# Altium schematic symbol library etherceptor.SchLib: 86 symbols (part 1 of 2)
Pins are listed as number, name and electrical type; pins without a type are passive.

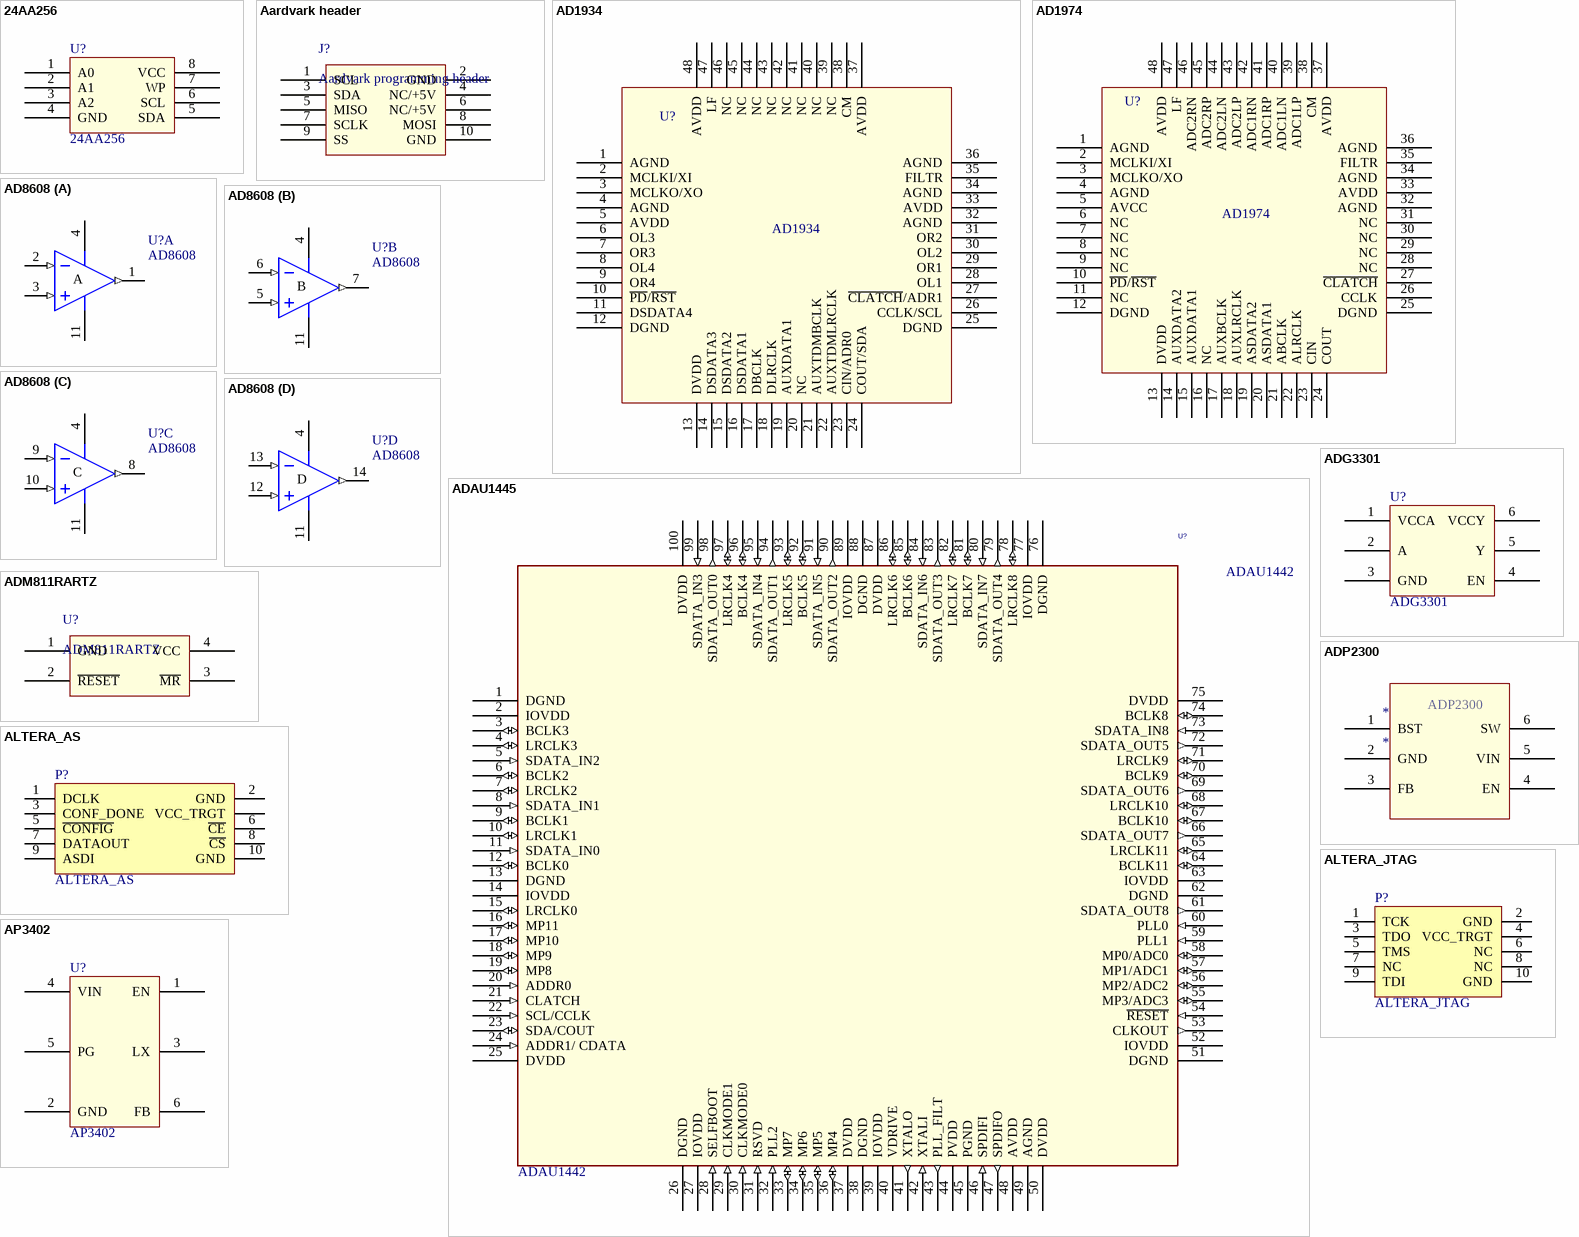
[diagram p0: symbols 24AA256 to AP3402]

## 24AA256
designator U?
Serial EEPROM
footprint SOIC150-8_M (8-Pin Plastic Narrow Body Small Outline Integrated Circuit 1.27 mm Pitch, IPC Low Density)
pins: 1 A0, 2 A1, 3 A2, 4 GND, 5 SDA, 6 SCL, 7 WP, 8 VCC

## Aardvark header
designator J?, comment Aardvark programming header
footprint IDC2.54-V10D (Connector; IDC, Low Profile Male Header, Thru-Hole; 10 Position; Vertical; Pitch 2.54 mm; Body 20.32 x 9.2 x 9.45 mm (LxWxH))
pins: 1 SCL, 2 GND, 3 SDA, 4 NC/+5V, 5 MISO, 6 NC/+5V, 7 SCLK, 8 MOSI, 9 SS, 10 GND

## AD1934
designator U?
8xDAC
footprint ADI_LQFP48
footprint TSQFP50P900X900-48M (Thin QFP, 48-Leads, Body 7x7mm, Pitch 0.5mm, IPC Low Density)
pins: 1 AGND, 2 MCLKI/XI, 3 MCLKO/XO, 4 AGND, 5 AVDD, 6 OL3, 7 OR3, 8 OL4, 9 OR4, 10 ~{PD}/~{RST}, 11 DSDATA4, 12 DGND, 13 DVDD, 14 DSDATA3, 15 DSDATA2, 16 DSDATA1, 17 DBCLK, 18 DLRCLK, 19 AUXDATA1, 20 NC, 21 AUXTDMBCLK, 22 AUXTDMLRCLK, 23 CIN/ADR0, 24 COUT/SDA, 25 DGND, 26 CCLK/SCL, 27 ~{CLATCH}/ADR1, 28 OL1, 29 OR1, 30 OL2, 31 OR2, 32 AGND, 33 AVDD, 34 AGND, 35 FILTR, 36 AGND, 37 AVDD, 38 CM, 39 NC, 40 NC, 41 NC, 42 NC, 43 NC, 44 NC, 45 NC, 46 NC, 47 LF, 48 AVDD

## AD1974
designator U?
4xADC
footprint ADI_LQFP48
footprint TSQFP50P900X900-48M (Thin QFP, 48-Leads, Body 7x7mm, Pitch 0.5mm, IPC Low Density)
pins: 1 AGND, 2 MCLKI/XI, 3 MCLKO/XO, 4 AGND, 5 AVCC, 6 NC, 7 NC, 8 NC, 9 NC, 10 ~{PD}/~{RST}, 11 NC, 12 DGND, 13 DVDD, 14 AUXDATA2, 15 AUXDATA1, 16 NC, 17 AUXBCLK, 18 AUXLRCLK, 19 ASDATA2, 20 ASDATA1, 21 ABCLK, 22 ALRCLK, 23 CIN, 24 COUT, 25 DGND, 26 CCLK, 27 ~{CLATCH}, 28 NC, 29 NC, 30 NC, 31 NC, 32 AGND, 33 AVDD, 34 AGND, 35 FILTR, 36 AGND, 37 AVDD, 38 CM, 39 ADC1LP, 40 ADC1LN, 41 ADC1RP, 42 ADC1RN, 43 ADC2LP, 44 ADC2LN, 45 ADC2RP, 46 ADC2RN, 47 LF, 48 AVDD

## AD8608
designator U?
Precision, Low Noise, CMOS, Rail-to-Rail,  Input/Output Operational Amplifiers; Manufacturer: Analog Devices; ProductCode: AD8608ARUZ; Vendor: Farnell; VendorCode: 1660999
footprint TSSOP-14
pins on every part: 4 V+ (power), 11 V- (power)
part A pins: 1 OUT (out), 2 IN- (in), 3 IN+ (in)
part B pins: 5 IN+ (in), 6 IN- (in), 7 OUT (out)
part C pins: 8 OUT (out), 9 IN- (in), 10 IN+ (in)
part D pins: 12 IN+ (in), 13 IN- (in), 14 OUT (out)
part A text: A
part B text: B
part C text: C
part D text: D

## ADAU1445
designator U?, comment ADAU1442
DSP; SlotXofY: SYM 1 OF 1; SymName: ADAU1442
footprint SV-100_ADI_TQFP_100
footprint TQFP_100_ADI_SV-100-8 (Thin QFP, 100-Leads, Body 14x14mm, Pitch 0.5mm, IPC Low Density)
pins: 1 DGND (power), 2 IOVDD (power), 3 BCLK3 (io), 4 LRCLK3 (io), 5 SDATA_IN2 (in), 6 BCLK2 (io), 7 LRCLK2 (io), 8 SDATA_IN1 (in), 9 BCLK1 (io), 10 LRCLK1 (io), 11 SDATA_IN0 (in), 12 BCLK0 (io), 13 DGND (power), 14 IOVDD (power), 15 LRCLK0 (io), 16 MP11 (io), 17 MP10 (io), 18 MP9 (io), 19 MP8 (io), 20 ADDR0 (in), 21 CLATCH (in), 22 SCL/CCLK (in), 23 SDA/COUT (io), 24 ADDR1/ CDATA (in), 25 DVDD (power), 26 DGND (power), 27 IOVDD (power), 28 SELFBOOT (in), 29 CLKMODE1 (in), 30 CLKMODE0 (in), 31 RSVD (in), 32 PLL2 (in), 33 MP7 (io), 34 MP6 (io), 35 MP5 (io), 36 MP4 (io), 37 DVDD (power), 38 DGND (power), 39 IOVDD (power), 40 VDRIVE (power), 41 XTALO (out), 42 XTALI (in), 43 PLL_FILT (out), 44 PVDD (power), 45 PGND (power), 46 SPDIFI (in), 47 SPDIFO (out), 48 AVDD (power), 49 AGND (power), 50 DVDD (power), 51 DGND (power), 52 IOVDD (power), 53 CLKOUT (out), 54 ~{RESET} (in), 55 MP3/ADC3 (io), 56 MP2/ADC2 (io), 57 MP1/ADC1 (io), 58 MP0/ADC0 (io), 59 PLL1 (in), 60 PLL0 (in), 61 SDATA_OUT8 (out), 62 DGND (power), 63 IOVDD (power), 64 BCLK11 (io), 65 LRCLK11 (io), 66 SDATA_OUT7 (out), 67 BCLK10 (io), 68 LRCLK10 (io), 69 SDATA_OUT6 (out), 70 BCLK9 (io), 71 LRCLK9 (io), 72 SDATA_OUT5 (out), 73 SDATA_IN8 (in), 74 BCLK8 (io), 75 DVDD (power), 76 DGND (power), 77 IOVDD (power), 78 LRCLK8 (io), 79 SDATA_OUT4 (out), 80 SDATA_IN7 (in), 81 BCLK7 (io), 82 LRCLK7 (io), 83 SDATA_OUT3 (out), 84 SDATA_IN6 (in), 85 BCLK6 (io), 86 LRCLK6 (io), 87 DVDD (power), 88 DGND (power), 89 IOVDD (power), 90 SDATA_OUT2 (out), 91 SDATA_IN5 (in), 92 BCLK5 (io), 93 LRCLK5 (io), 94 SDATA_OUT1 (out), 95 SDATA_IN4 (in), 96 BCLK4 (io), 97 LRCLK4 (io), 98 SDATA_OUT0 (out), 99 SDATA_IN3 (in), 100 DVDD (power)

## ADG3301
designator U?
Single Channel Level Translator
footprint SOT363-6M_SC70
pins: 1 VCCA, 2 A, 3 GND, 4 EN, 5 Y, 6 VCCY

## ADM811RARTZ
designator U?
Power-on-reset
pins: 1 GND, 2 ~{RESET}, 3 ~{MR}, 4 VCC

## ADP2300
designator *
Buck converter
pins: 1 BST, 2 GND, 3 FB, 4 EN, 5 VIN, 6 SW

## ALTERA_AS
designator P?
Altera Active Serial Con; LatestRevisionDate: 17-Jul-2002; LatestRevisionNote: Re-released for DXP Platform.; Publisher: Altium Limited
footprint HDR2X5 (Connector; Header; 5x2 Position)
footprint IDC2.54-V10D (Connector; IDC, Low Profile Male Header, Thru-Hole; 10 Position; Vertical; Pitch 2.54 mm; Body 20.32 x 9.2 x 9.45 mm (LxWxH))
pins: 1 DCLK, 2 GND, 3 CONF_DONE, 4 VCC_TRGT, 5 ~{CONFIG}, 6 ~{CE}, 7 DATAOUT, 8 ~{CS}, 9 ASDI, 10 GND

## ALTERA_JTAG
designator P?
Altera JTAG Con; LatestRevisionDate: 17-Jul-2002; LatestRevisionNote: Re-released for DXP Platform.; Publisher: Altium Limited
footprint HDR2X5 (Connector; Header; 5x2 Position)
footprint IDC2.54-V10D (Connector; IDC, Low Profile Male Header, Thru-Hole; 10 Position; Vertical; Pitch 2.54 mm; Body 20.32 x 9.2 x 9.45 mm (LxWxH))
pins: 1 TCK, 2 GND, 3 TDO, 4 VCC_TRGT, 5 TMS, 6 NC, 7 NC, 8 NC, 9 TDI, 10 GND

## AP3402
designator U?
Buck converter
footprint TSOT26
pins: 1 EN, 2 GND, 3 LX, 4 VIN, 5 PG, 6 FB

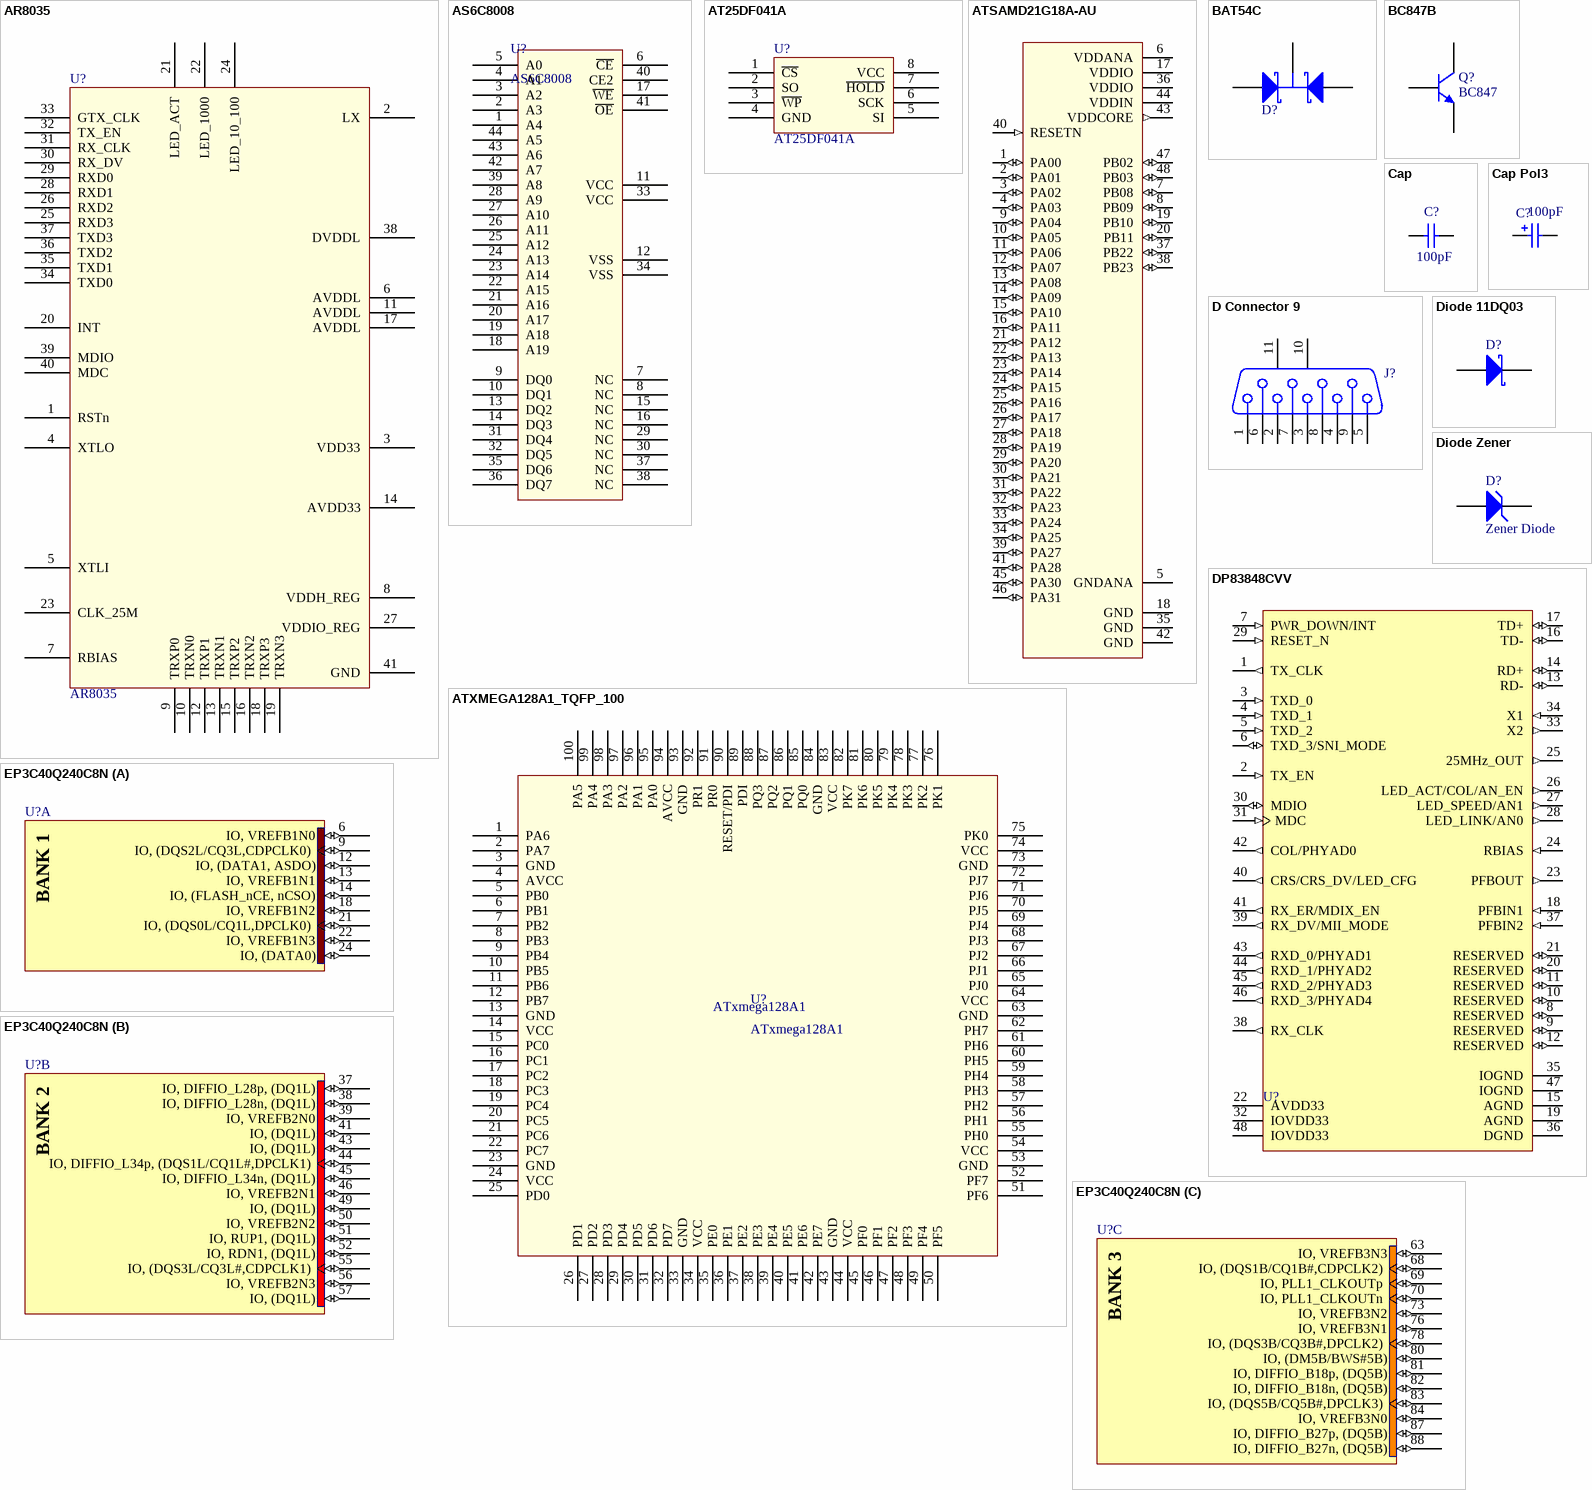
[diagram p1: symbols AR8035 to EP3C40Q240C8N]

## AR8035
designator U?
Ethernet PHY, 10/100/1000 Mbit. QFN40; XMOS Part Number: E-13-0162; Manufacturer: Qualcomm; Part Creator: EB; Approx Volume Cost ($): 0; Approved: NO; Value: AR8035; Manufacturer Part Number: AR8035; Datasheet: NA; Max Height (mm): 0.8
footprint QFN40_5x5
pins: 1 RSTn, 2 LX, 3 VDD33, 4 XTLO, 5 XTLI, 6 AVDDL, 7 RBIAS, 8 VDDH_REG, 9 TRXP0, 10 TRXN0, 11 AVDDL, 12 TRXP1, 13 TRXN1, 14 AVDD33, 15 TRXP2, 16 TRXN2, 17 AVDDL, 18 TRXP3, 19 TRXN3, 20 INT, 21 LED_ACT, 22 LED_1000, 23 CLK_25M, 24 LED_10_100, 25 RXD3, 26 RXD2, 27 VDDIO_REG, 28 RXD1, 29 RXD0, 30 RX_DV, 31 RX_CLK, 32 TX_EN, 33 GTX_CLK, 34 TXD0, 35 TXD1, 36 TXD2, 37 TXD3, 38 DVDDL, 39 MDIO, 40 MDC, 41 GND

## AS6C8008
designator U?
1024Kx8 SRAM
footprint SOP80P1176-44M (SOP, 44-Leads, Body 18.4x10.16mm, Pitch 0.8mm, IPC Low Density)
pins: 1 A4, 2 A3, 3 A2, 4 A1, 5 A0, 6 ~{CE}, 7 NC, 8 NC, 9 DQ0, 10 DQ1, 11 VCC, 12 VSS, 13 DQ2, 14 DQ3, 15 NC, 16 NC, 17 ~{WE}, 18 A19, 19 A18, 20 A17, 21 A16, 22 A15, 23 A14, 24 A13, 25 A12, 26 A11, 27 A10, 28 A9, 29 NC, 30 NC, 31 DQ4, 32 DQ5, 33 VCC, 34 VSS, 35 DQ6, 36 DQ7, 37 NC, 38 NC, 39 A8, 40 CE2, 41 ~{OE}, 42 A7, 43 A6, 44 A5

## AT25DF041A
designator U?
4Mbit SPI Flash
footprint SOIC150-8_M (8-Pin Plastic Narrow Body Small Outline Integrated Circuit 1.27 mm Pitch, IPC Low Density)
pins: 1 ~{CS}, 2 SO, 3 ~{WP}, 4 GND, 5 SI, 6 SCK, 7 ~{HOLD}, 8 VCC

## ATSAMD21G18A-AU
designator U?  (value not drawn)
Cortex-M0+, 256KB FLASH, 32KB SRAM, USB, DMA, T&amp;R - 48TQFP IND TEMP, GREEN, 1.6-3.6V, 48MHz; MF: Atmel; Availability: Warning; MP: ATSAMD21G18A-AU; Price: 3.66 USD; Package: TQFP-48 Atmel; Value: *
footprint TSQFP50P900X900-48M (Thin QFP, 48-Leads, Body 7x7mm, Pitch 0.5mm, IPC Low Density)
pins: 1 PA00 (io), 2 PA01 (io), 3 PA02 (io), 4 PA03 (io), 5 GNDANA (power), 6 VDDANA (power), 7 PB08 (io), 8 PB09 (io), 9 PA04 (io), 10 PA05 (io), 11 PA06 (io), 12 PA07 (io), 13 PA08 (io), 14 PA09 (io), 15 PA10 (io), 16 PA11 (io), 17 VDDIO (power), 18 GND (power), 19 PB10 (io), 20 PB11 (io), 21 PA12 (io), 22 PA13 (io), 23 PA14 (io), 24 PA15 (io), 25 PA16 (io), 26 PA17 (io), 27 PA18 (io), 28 PA19 (io), 29 PA20 (io), 30 PA21 (io), 31 PA22 (io), 32 PA23 (io), 33 PA24 (io), 34 PA25 (io), 35 GND (power), 36 VDDIO (power), 37 PB22 (io), 38 PB23 (io), 39 PA27 (io), 40 RESETN (in), 41 PA28 (io), 42 GND (power), 43 VDDCORE (out), 44 VDDIN (power), 45 PA30 (io), 46 PA31 (io), 47 PB02 (io), 48 PB03 (io)

## ATXMEGA128A1_TQFP_100
designator U?, comment ATxmega128A1
footprint TQFP100_ATXMEGA
footprint TSQFP50P1600X1600-100M (Thin QFP, 100-Leads, Body 14x14mm, Pitch 0.5mm, IPC Low Density)
pins: 1 PA6, 2 PA7, 3 GND, 4 AVCC, 5 PB0, 6 PB1, 7 PB2, 8 PB3, 9 PB4, 10 PB5, 11 PB6, 12 PB7, 13 GND, 14 VCC, 15 PC0, 16 PC1, 17 PC2, 18 PC3, 19 PC4, 20 PC5, 21 PC6, 22 PC7, 23 GND, 24 VCC, 25 PD0, 26 PD1, 27 PD2, 28 PD3, 29 PD4, 30 PD5, 31 PD6, 32 PD7, 33 GND, 34 VCC, 35 PE0, 36 PE1, 37 PE2, 38 PE3, 39 PE4, 40 PE5, 41 PE6, 42 PE7, 43 GND, 44 VCC, 45 PF0, 46 PF1, 47 PF2, 48 PF3, 49 PF4, 50 PF5, 51 PF6, 52 PF7, 53 GND, 54 VCC, 55 PH0, 56 PH1, 57 PH2, 58 PH3, 59 PH4, 60 PH5, 61 PH6, 62 PH7, 63 GND, 64 VCC, 65 PJ0, 66 PJ1, 67 PJ2, 68 PJ3, 69 PJ4, 70 PJ5, 71 PJ6, 72 PJ7, 73 GND, 74 VCC, 75 PK0, 76 PK1, 77 PK2, 78 PK3, 79 PK4, 80 PK5, 81 PK6, 82 PK7, 83 VCC, 84 GND, 85 PQ0, 86 PQ1, 87 PQ2, 88 PQ3, 89 PDI, 90 RESET/PDI, 91 PR0, 92 PR1, 93 GND, 94 AVCC, 95 PA0, 96 PA1, 97 PA2, 98 PA3, 99 PA4, 100 PA5

## BAT54C
designator D?
Schottky Barrier Double Diode; Published: 17-Sep-2003; LatestRevisionDate: 12-Dec-2006; LatestRevisionNote: IPC-7351 Footprint Added.; DatasheetVersion: 4-Mar-2002; PackageVersion: May-1999; PackageReference: SOT23; Publisher: Altium Limited; PackageDescription: 3-Pin SOT-23 Package 0.95 mm Pitch, 2.3 mm Lead Span; ComponentLink1Description: Manufacturer Link; ComponentLink1URL: http://www.semiconductors.philips.com/; ComponentLink2Description: Datasheet; ComponentLink2URL: http://www.semiconductors.philips.com/acrobat/datasheets/BAT54_SERIES_4.pdf
footprint SOT23_N (SOT23, 3-Leads, Body 2.9x1.3mm, Pitch 0.95mm, Lead Span 2.3mm, IPC Medium Density)
footprint SOT23_L (SOT23, 3-Leads, Body 2.9x1.3mm, Pitch 0.95mm, Lead Span 2.3mm, IPC High Density)
footprint SOT23_M (SOT23, 3-Leads, Body 2.9x1.3mm, Pitch 0.95mm, Lead Span 2.3mm, IPC Low Density)
pins: 1 A1, 2 A2, 3 K

## BC847B
designator Q?, comment BC847
NPN General-purpose Transistor; Published: 17-Sep-2003; LatestRevisionDate: 12-Dec-2006; LatestRevisionNote: IPC-7351 Footprint Added.; DatasheetVersion: 4-Feb-2002; PackageVersion: May-1999; PackageReference: SOT23; Publisher: Altium Limited; PackageDescription: 3-Pin SOT-23 Package 0.95 mm Pitch, 2.3 mm Lead Span; ComponentLink1Description: Manufacturer Link; ComponentLink1URL: http://www.semiconductors.philips.com/; ComponentLink2Description: Datasheet; ComponentLink2URL: http://www.semiconductors.philips.com/acrobat/datasheets/BC846_BC847_BC848_5.pdf
footprint SOT23-3_M (SOT23, 3-Leads, Body 2.9x1.3mm, Pitch 0.95mm, Lead Span 2.3mm, IPC Low Density)
pins: 1 B, 2 E, 3 C

## Cap
designator C?  value 100pF  (hidden comment: Cap)
Capacitor; Published: 8-Jun-2000; LatestRevisionDate: 17-Jul-2002; LatestRevisionNote: Re-released for DXP Platform.; PackageReference: RAD-0.3; Publisher: Altium Limited
footprint 2012[0805] (Chip Resistor / Capacitor; Body 2.0 x 1.3 mm (LxW typ) Handsoldering optimized)
footprint 1608[0603] (Chip Resistor / Capacitor; Body 1.6 x 0.8 mm (LxW typ) Handsoldering optimized)
footprint 1608[0603]_CAP (Chip Resistor / Capacitor; Body 1.6 x 0.8 mm (LxW typ) Handsoldering optimized)
footprint 2012[0805]_CAP (Chip Resistor / Capacitor; Body 2.0 x 1.3 mm (LxW typ) Handsoldering optimized)
footprint 1608[0603]_CAP2 (Chip Capacitor, Body 1.6x0.8mm, IPC Medium Density)
footprint 1005[0402]_CAP2 (Chip Capacitor, Body 1.0x0.5mm, IPC Medium Density)
pins: 1, 2

## Cap Pol3
designator C?  value 100pF
Polarized Capacitor (Surface Mount); Published: 8-Jun-2000; LatestRevisionDate: 29-May-2009; LatestRevisionNote: IPC-7351 Footprint Added.; PackageReference: C0805; Publisher: Altium Limited; PackageDescription: Chip Capacitor
footprint PANASONIC_CAP_B (Panasonic SMD Capacitor Size B, Low Density)
footprint PANASONIC_CAP_D (Panasonic SMD Capacitor Size D, Low Density)
pins: 1, 2
1 alternate drawing of the same symbol

## D Connector 9
designator J?
Receptacle Assembly, 9 Position, Right Angle; PackageDocument: O; Positions: 9; Published: 15-Jun-2001; LatestRevisionDate: 17-Jul-2002; LatestRevisionNote: Re-released for DXP Platform.; DatasheetDocument: 1-Sep-1999; PackageReference: 788750; Publisher: Altium Limited; Orientation: Right Angle; Gender: Receptacle
footprint DSUB1.385-2H9 (Connector; D Subminiature; 9 Position; Right Angle; Pitch 1.385 mm)
pins: 1, 2, 3, 4, 5, 6, 7, 8, 9, 10 MH1, 11 MH2

## Diode 11DQ03
designator D?
Schottky Rectifier; Published: 8-Jun-2000; LatestRevisionDate: 17-Jul-2002; LatestRevisionNote: Re-released for DXP Platform.; DatasheetVersion: Dec-1997; PackageReference: DO-204AL; Publisher: Altium Limited; Code_JEDEC: DO-204-AL; ComponentLink1Description: Manufacturer Link; ComponentLink1URL: http://www.irf.com/; ComponentLink2Description: Datasheet; ComponentLink2URL: http://www.irf.com/product-info/datasheets/data/11dq03.pdf
pins: 1 A, 2 K

## Diode Zener
designator D?, comment Zener Diode
footprint SOT80C (Metal Electrode Face (MELF) Diode; Body 3.5 x 1.6 mm (LxDia))
footprint SOD123F (SOD-123F)
pins: 1 A, 2 K

## DP83848CVV
designator U?
PHYTER® Commercial Temperature Single Port 10/100 Mb/s Ethernet Physical Layer Transceiver, 48-pin LQFP; PartNumber: DP83848CVV; Manufacturer: National Semiconductor; PackageTopMarking: NSUZXYTT*DP83848VV*VBC; PowerWise: N; CompType: Interface IC; Published: 4-Dec-2008; DatasheetVersion: May-2008; PackageVersion: revE, May-2007; PackageReference: VBH48A; Publisher: Altium Limited; PackageDescription: LQFP, 7 x 7 x 1.4mm, 48 Lead, 0.5mm Pitch; Supplier 1: Farnell; Supplier Part Number 1: 1286816; Supplier 2: Farnell; Supplier Part Number 2: 1528379; RoHS: Y; PinCount: 48; ComponentLink1Description: DP83848C Datasheet; ComponentLink1URL: http://www.national.com/ds/DP/DP83848C.pdf; ComponentLink2Description: DP83848C Web Page; ComponentLink2URL: http://www.national.com/pf/DP/DP83848C.html; ComponentLink3Description: VBH48A Package Page; ComponentLink3URL: http://www.national.com/packaging/folders/vbh48a.html
footprint TSQFP50P900X900-48M (Thin QFP, 48-Leads, Body 7x7mm, Pitch 0.5mm, IPC Low Density)
footprint TSQFP50P900X900-48M2 (Thin QFP, 48-Leads, Body 7x7mm, Pitch 0.5mm, IPC Low Density)
pins: 1 TX_CLK (out), 2 TX_EN (in), 3 TXD_0 (in), 4 TXD_1 (in), 5 TXD_2 (in), 6 TXD_3/SNI_MODE (io), 7 PWR_DOWN/INT (in), 8 RESERVED (io), 9 RESERVED (io), 10 RESERVED (io), 11 RESERVED (io), 12 RESERVED (io), 13 RD- (io), 14 RD+ (io), 15 AGND (power), 16 TD- (io), 17 TD+ (io), 18 PFBIN1 (in), 19 AGND (power), 20 RESERVED (io), 21 RESERVED (io), 22 AVDD33 (power), 23 PFBOUT (out), 24 RBIAS (in), 25 25MHz_OUT (out), 26 LED_ACT/COL/AN_EN (out), 27 LED_SPEED/AN1 (out), 28 LED_LINK/AN0 (out), 29 RESET_N (in), 30 MDIO (io), 31 MDC (in), 32 IOVDD33 (power), 33 X2 (out), 34 X1 (in), 35 IOGND (power), 36 DGND (power), 37 PFBIN2 (in), 38 RX_CLK (out), 39 RX_DV/MII_MODE (out), 40 CRS/CRS_DV/LED_CFG (out), 41 RX_ER/MDIX_EN (out), 42 COL/PHYAD0 (out), 43 RXD_0/PHYAD1 (out), 44 RXD_1/PHYAD2 (out), 45 RXD_2/PHYAD3 (out), 46 RXD_3/PHYAD4 (out), 47 IOGND (power), 48 IOVDD33 (power)

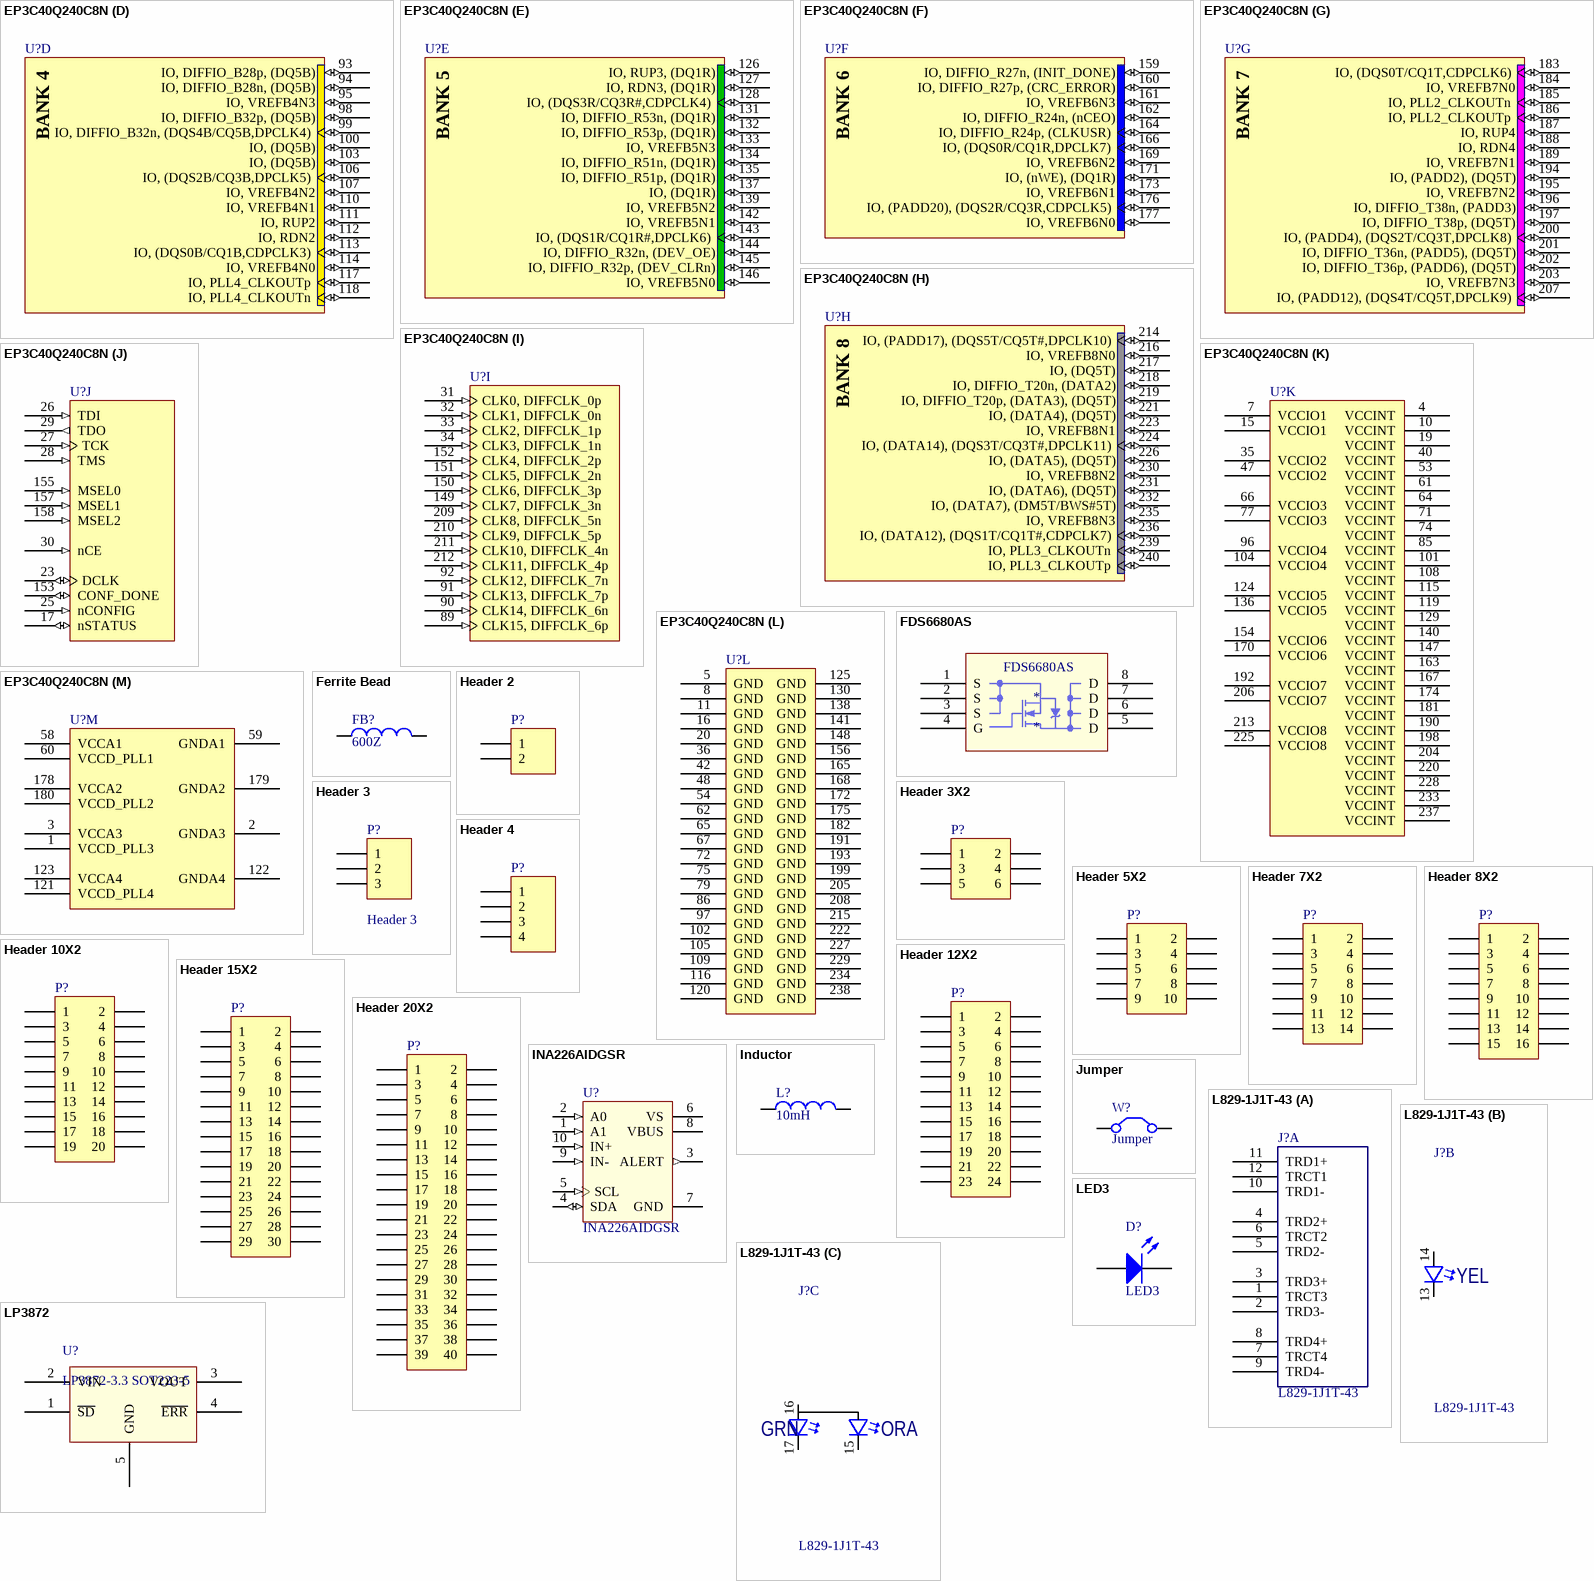
[diagram p2: symbols EP3C40Q240C8N to LP3872]

## EP3C40Q240C8N
designator U?
Cyclone III Family FPGA, 128 I/O Pins, 4 PLLs, 240-Pin PQFP, Speed Grade 8, Commercial Grade, Pb-Free; Published: 26-Feb-2007; DatasheetVersion: ver2.0, May-2008; PackageVersion: ver15.1, May-2008; PackageReference: PQFP240; Publisher: Altium Limited; PackageDescription: 240-Pin Plastic Quad Flat Pack (PQFP240) - Wire Bond; Code_JEDEC: MS-029-GA; ComponentLink1Description: Manufacturer Link; ComponentLink1URL: http://www.altera.com/; ComponentLink2Description: Handbook (7.86MB); ComponentLink2URL: http://www.altera.com/literature/hb/cyc3/cyclone3_handbook.pdf; ComponentLink3Description: Packaging Specification; ComponentLink3URL: http://www.altera.com/literature/ds/dspkg.pdf
footprint PQFP240_N (Shrink QFP, 240-Leads, Body 32x32mm, Pitch 0.5mm, IPC Medium Density)
footprint PQFP240_L (Shrink QFP, 240-Leads, Body 32x32mm, Pitch 0.5mm, IPC High Density)
footprint PQFP240_M (Shrink QFP, 240-Leads, Body 32x32mm, Pitch 0.5mm, IPC Low Density)
part A pins: 6 IO, VREFB1N0 (io), 9 IO, (DQS2L/CQ3L,CDPCLK0) (io), 12 IO, (DATA1, ASDO) (io), 13 IO, VREFB1N1 (io), 14 IO, (FLASH_nCE, nCSO) (io), 18 IO, VREFB1N2 (io), 21 IO, (DQS0L/CQ1L,DPCLK0) (io), 22 IO, VREFB1N3 (io), 24 IO, (DATA0) (io)
part B pins: 37 IO, DIFFIO_L28p, (DQ1L) (io), 38 IO, DIFFIO_L28n, (DQ1L) (io), 39 IO, VREFB2N0 (io), 41 IO, (DQ1L) (io), 43 IO, (DQ1L) (io), 44 IO, DIFFIO_L34p, (DQS1L/CQ1L#,DPCLK1) (io), 45 IO, DIFFIO_L34n, (DQ1L) (io), 46 IO, VREFB2N1 (io), 49 IO, (DQ1L) (io), 50 IO, VREFB2N2 (io), 51 IO, RUP1, (DQ1L) (io), 52 IO, RDN1, (DQ1L) (io), 55 IO, (DQS3L/CQ3L#,CDPCLK1) (io), 56 IO, VREFB2N3 (io), 57 IO, (DQ1L) (io)
part C pins: 63 IO, VREFB3N3 (io), 68 IO, (DQS1B/CQ1B#,CDPCLK2) (io), 69 IO, PLL1_CLKOUTp (io), 70 IO, PLL1_CLKOUTn (io), 73 IO, VREFB3N2 (io), 76 IO, VREFB3N1 (io), 78 IO, (DQS3B/CQ3B#,DPCLK2) (io), 80 IO, (DM5B/BWS#5B) (io), 81 IO, DIFFIO_B18p, (DQ5B) (io), 82 IO, DIFFIO_B18n, (DQ5B) (io), 83 IO, (DQS5B/CQ5B#,DPCLK3) (io), 84 IO, VREFB3N0 (io), 87 IO, DIFFIO_B27p, (DQ5B) (io), 88 IO, DIFFIO_B27n, (DQ5B) (io)
part D pins: 93 IO, DIFFIO_B28p, (DQ5B) (io), 94 IO, DIFFIO_B28n, (DQ5B) (io), 95 IO, VREFB4N3 (io), 98 IO, DIFFIO_B32p, (DQ5B) (io), 99 IO, DIFFIO_B32n, (DQS4B/CQ5B,DPCLK4) (io), 100 IO, (DQ5B) (io), 103 IO, (DQ5B) (io), 106 IO, (DQS2B/CQ3B,DPCLK5) (io), 107 IO, VREFB4N2 (io), 110 IO, VREFB4N1 (io), 111 IO, RUP2 (io), 112 IO, RDN2 (io), 113 IO, (DQS0B/CQ1B,CDPCLK3) (io), 114 IO, VREFB4N0 (io), 117 IO, PLL4_CLKOUTp (io), 118 IO, PLL4_CLKOUTn (io)
part E pins: 126 IO, RUP3, (DQ1R) (io), 127 IO, RDN3, (DQ1R) (io), 128 IO, (DQS3R/CQ3R#,CDPCLK4) (io), 131 IO, DIFFIO_R53n, (DQ1R) (io), 132 IO, DIFFIO_R53p, (DQ1R) (io), 133 IO, VREFB5N3 (io), 134 IO, DIFFIO_R51n, (DQ1R) (io), 135 IO, DIFFIO_R51p, (DQ1R) (io), 137 IO, (DQ1R) (io), 139 IO, VREFB5N2 (io), 142 IO, VREFB5N1 (io), 143 IO, (DQS1R/CQ1R#,DPCLK6) (io), 144 IO, DIFFIO_R32n, (DEV_OE) (io), 145 IO, DIFFIO_R32p, (DEV_CLRn) (io), 146 IO, VREFB5N0 (io)
part F pins: 159 IO, DIFFIO_R27n, (INIT_DONE) (io), 160 IO, DIFFIO_R27p, (CRC_ERROR) (io), 161 IO, VREFB6N3 (io), 162 IO, DIFFIO_R24n, (nCEO) (io), 164 IO, DIFFIO_R24p, (CLKUSR) (io), 166 IO, (DQS0R/CQ1R,DPCLK7) (io), 169 IO, VREFB6N2 (io), 171 IO, (nWE), (DQ1R) (io), 173 IO, VREFB6N1 (io), 176 IO, (PADD20), (DQS2R/CQ3R,CDPCLK5) (io), 177 IO, VREFB6N0 (io)
part G pins: 183 IO, (DQS0T/CQ1T,CDPCLK6) (io), 184 IO, VREFB7N0 (io), 185 IO, PLL2_CLKOUTn (io), 186 IO, PLL2_CLKOUTp (io), 187 IO, RUP4 (io), 188 IO, RDN4 (io), 189 IO, VREFB7N1 (io), 194 IO, (PADD2), (DQ5T) (io), 195 IO, VREFB7N2 (io), 196 IO, DIFFIO_T38n, (PADD3) (io), 197 IO, DIFFIO_T38p, (DQ5T) (io), 200 IO, (PADD4), (DQS2T/CQ3T,DPCLK8) (io), 201 IO, DIFFIO_T36n, (PADD5), (DQ5T) (io), 202 IO, DIFFIO_T36p, (PADD6), (DQ5T) (io), 203 IO, VREFB7N3 (io), 207 IO, (PADD12), (DQS4T/CQ5T,DPCLK9) (io)
part H pins: 214 IO, (PADD17), (DQS5T/CQ5T#,DPCLK10) (io), 216 IO, VREFB8N0 (io), 217 IO, (DQ5T) (io), 218 IO, DIFFIO_T20n, (DATA2) (io), 219 IO, DIFFIO_T20p, (DATA3), (DQ5T) (io), 221 IO, (DATA4), (DQ5T) (io), 223 IO, VREFB8N1 (io), 224 IO, (DATA14), (DQS3T/CQ3T#,DPCLK11) (io), 226 IO, (DATA5), (DQ5T) (io), 230 IO, VREFB8N2 (io), 231 IO, (DATA6), (DQ5T) (io), 232 IO, (DATA7), (DM5T/BWS#5T) (io), 235 IO, VREFB8N3 (io), 236 IO, (DATA12), (DQS1T/CQ1T#,CDPCLK7) (io), 239 IO, PLL3_CLKOUTn (io), 240 IO, PLL3_CLKOUTp (io)
part I pins: 31 CLK0, DIFFCLK_0p (in), 32 CLK1, DIFFCLK_0n (in), 33 CLK2, DIFFCLK_1p (in), 34 CLK3, DIFFCLK_1n (in), 89 CLK15, DIFFCLK_6p (in), 90 CLK14, DIFFCLK_6n (in), 91 CLK13, DIFFCLK_7p (in), 92 CLK12, DIFFCLK_7n (in), 149 CLK7, DIFFCLK_3n (in), 150 CLK6, DIFFCLK_3p (in), 151 CLK5, DIFFCLK_2n (in), 152 CLK4, DIFFCLK_2p (in), 209 CLK8, DIFFCLK_5n (in), 210 CLK9, DIFFCLK_5p (in), 211 CLK10, DIFFCLK_4n (in), 212 CLK11, DIFFCLK_4p (in)
part J pins: 17 nSTATUS (io), 23 DCLK (io), 25 nCONFIG (in), 26 TDI (in), 27 TCK (in), 28 TMS (in), 29 TDO (out), 30 nCE (in), 153 CONF_DONE (io), 155 MSEL0 (in), 157 MSEL1 (in), 158 MSEL2 (in)
part K pins: 4 VCCINT (power), 7 VCCIO1 (power), 10 VCCINT (power), 15 VCCIO1 (power), 19 VCCINT (power), 35 VCCIO2 (power), 40 VCCINT (power), 47 VCCIO2 (power), 53 VCCINT (power), 61 VCCINT (power), 64 VCCINT (power), 66 VCCIO3 (power), 71 VCCINT (power), 74 VCCINT (power), 77 VCCIO3 (power), 85 VCCINT (power), 96 VCCIO4 (power), 101 VCCINT (power), 104 VCCIO4 (power), 108 VCCINT (power), 115 VCCINT (power), 119 VCCINT (power), 124 VCCIO5 (power), 129 VCCINT (power), 136 VCCIO5 (power), 140 VCCINT (power), 147 VCCINT (power), 154 VCCIO6 (power), 163 VCCINT (power), 167 VCCINT (power), 170 VCCIO6 (power), 174 VCCINT (power), 181 VCCINT (power), 190 VCCINT (power), 192 VCCIO7 (power), 198 VCCINT (power), 204 VCCINT (power), 206 VCCIO7 (power), 213 VCCIO8 (power), 220 VCCINT (power), 225 VCCIO8 (power), 228 VCCINT (power), 233 VCCINT (power), 237 VCCINT (power)
part L pins: 5 GND (power), 8 GND (power), 11 GND (power), 16 GND (power), 20 GND (power), 36 GND (power), 42 GND (power), 48 GND (power), 54 GND (power), 62 GND (power), 65 GND (power), 67 GND (power), 72 GND (power), 75 GND (power), 79 GND (power), 86 GND (power), 97 GND (power), 102 GND (power), 105 GND (power), 109 GND (power), 116 GND (power), 120 GND (power), 125 GND (power), 130 GND (power), 138 GND (power), 141 GND (power), 148 GND (power), 156 GND (power), 165 GND (power), 168 GND (power), 172 GND (power), 175 GND (power), 182 GND (power), 191 GND (power), 193 GND (power), 199 GND (power), 205 GND (power), 208 GND (power), 215 GND (power), 222 GND (power), 227 GND (power), 229 GND (power), 234 GND (power), 238 GND (power)
part M pins: 1 VCCD_PLL3 (power), 2 GNDA3 (power), 3 VCCA3 (power), 58 VCCA1 (power), 59 GNDA1 (power), 60 VCCD_PLL1 (power), 121 VCCD_PLL4 (power), 122 GNDA4 (power), 123 VCCA4 (power), 178 VCCA2 (power), 179 GNDA2 (power), 180 VCCD_PLL2 (power)
part A text: BANK 1
part B text: BANK 2
part C text: BANK 3
part D text: BANK 4
part E text: BANK 5
part F text: BANK 6
part G text: BANK 7
part H text: BANK 8

## FDS6680AS
designator *
pins: 1 S, 2 S, 3 S, 4 G, 5 D, 6 D, 7 D, 8 D

## Ferrite Bead
designator FB?  value 600Z  (hidden comment: Ferrite Bead)
Code_IEC: 1005; Published: 8-Jun-2000; LatestRevisionDate: 29-May-2009; LatestRevisionNote: IPC-7351 Footprint Added.; PackageReference: 0402-A; Publisher: Altium Limited; PackageDescription: Chip Inductor; Code_JEITA: 0402
footprint 1608[0603] (Chip Resistor / Capacitor; Body 1.6 x 0.8 mm (LxW typ) Handsoldering optimized)
footprint 1608[0603]_FB (Chip Resistor / Capacitor; Body 1.6 x 0.8 mm (LxW typ) Handsoldering optimized)
footprint 1005[0402]_FB2 (Chip Ferrite Bead, Body 1.0x0.5mm, IPC Medium Density)
pins: 1, 2

## Header 2
designator P?
Header, 2-Pin; LatestRevisionDate: 17-Jul-2002; LatestRevisionNote: Re-released for DXP Platform.; Publisher: Altium Limited
footprint HDR1X2 (Connector; Header; 2 Position)
pins: 1, 2

## Header 3
designator P?
Header, 3-Pin; LatestRevisionDate: 17-Jul-2002; LatestRevisionNote: Re-released for DXP Platform.; Publisher: Altium Limited
footprint HDR1X3 (Connector; Header; 4 Position)
pins: 1, 2, 3

## Header 3X2
designator P?
Header, 3-Pin, Dual row; LatestRevisionDate: 17-Jul-2002; LatestRevisionNote: Re-released for DXP Platform.; Publisher: Altium Limited
signal-integrity model Connector
footprint HDR2X3 (Connector; Header; 3x2 Position)
footprint IDC2.54-V6D (Connector; IDC, Low Profile Male Header, Thru-Hole; 6 Position; Vertical; Pitch 2.54 mm; Body 15.24 x 9.2 x 9.45 mm (LxWxH))
pins: 1, 2, 3, 4, 5, 6

## Header 4
designator P?
Header, 4-Pin; LatestRevisionDate: 17-Jul-2002; LatestRevisionNote: Re-released for DXP Platform.; Publisher: Altium Limited
footprint HDR1X4 (Connector; Header; 4 Position)
pins: 1, 2, 3, 4

## Header 5X2
designator P?
Header, 5-Pin, Dual row; LatestRevisionDate: 17-Jul-2002; LatestRevisionNote: Re-released for DXP Platform.; Publisher: Altium Limited
signal-integrity model Connector
footprint HDR2X5 (Connector; Header; 5x2 Position)
footprint IDC2.54-V10D (Connector; IDC, Low Profile Male Header, Thru-Hole; 10 Position; Vertical; Pitch 2.54 mm; Body 20.32 x 9.2 x 9.45 mm (LxWxH))
pins: 1, 2, 3, 4, 5, 6, 7, 8, 9, 10

## Header 7X2
designator P?
Header, 7-Pin, Dual row; LatestRevisionDate: 17-Jul-2002; LatestRevisionNote: Re-released for DXP Platform.; Publisher: Altium Limited
footprint HDR2X7 (Connector; Header; 7x2 Position)
pins: 1, 2, 3, 4, 5, 6, 7, 8, 9, 10, 11, 12, 13, 14

## Header 8X2
designator P?
Header, 8-Pin, Dual row; LatestRevisionDate: 17-Jul-2002; LatestRevisionNote: Re-released for DXP Platform.; Publisher: Altium Limited
footprint HDR2X8 (Connector; Header; 8x2 Position)
pins: 1, 2, 3, 4, 5, 6, 7, 8, 9, 10, 11, 12, 13, 14, 15, 16

## Header 10X2
designator P?
Header, 10-Pin, Dual row; LatestRevisionDate: 17-Jul-2002; LatestRevisionNote: Re-released for DXP Platform.; Publisher: Altium Limited
signal-integrity model Connector
footprint HDR2X10 (Connector; Header; 10x2 Position)
pins: 1, 2, 3, 4, 5, 6, 7, 8, 9, 10, 11, 12, 13, 14, 15, 16, 17, 18, 19, 20

## Header 12X2
designator P?
Header, 12-Pin, Dual row; LatestRevisionDate: 17-Jul-2002; LatestRevisionNote: Re-released for DXP Platform.; Publisher: Altium Limited
footprint HDR2X12 (Connector; Header; 12x2 Position)
pins: 1, 2, 3, 4, 5, 6, 7, 8, 9, 10, 11, 12, 13, 14, 15, 16, 17, 18, 19, 20, 21, 22, 23, 24

## Header 15X2
designator P?
Header, 15-Pin, Dual row; LatestRevisionDate: 17-Jul-2002; LatestRevisionNote: Re-released for DXP Platform.; Publisher: Altium Limited
footprint HDR2X15 (Connector; Header; 15x2 Position)
pins: 1, 2, 3, 4, 5, 6, 7, 8, 9, 10, 11, 12, 13, 14, 15, 16, 17, 18, 19, 20, 21, 22, 23, 24, 25, 26, 27, 28, 29, 30

## Header 20X2
designator P?
Header, 20-Pin, Dual row; LatestRevisionDate: 17-Jul-2002; LatestRevisionNote: Re-released for DXP Platform.; Publisher: Altium Limited
footprint HDR2X20 (Connector; Header; 20x2 Position)
pins: 1, 2, 3, 4, 5, 6, 7, 8, 9, 10, 11, 12, 13, 14, 15, 16, 17, 18, 19, 20, 21, 22, 23, 24, 25, 26, 27, 28, 29, 30, 31, 32, 33, 34, 35, 36, 37, 38, 39, 40

## INA226AIDGSR
designator U?
36-V, Bi-Directional, Ultra-High Accuracy, Low-/High-Side, I2C Out Current/Power Monitor w/ Alert 10-VSSOP -40 to 125; MF: Texas Instruments; Package: MSOP-10 Texas Instruments; MP: INA226AIDGSR; Price: 2.35 USD; Availability: Good; Value: *
footprint SOP50P490X110-10N
pins: 1 A1 (in), 2 A0 (in), 3 ALERT (out), 4 SDA (io), 5 SCL (in), 6 VS (power), 7 GND (power), 8 VBUS (power), 9 IN- (in), 10 IN+ (in)

## Inductor
designator L?  value 10mH
Inductor; Code_IEC: 1005; Published: 8-Jun-2000; LatestRevisionDate: 29-May-2009; LatestRevisionNote: IPC-7351 Footprint Added.; PackageReference: 0402-A; Publisher: Altium Limited; PackageDescription: Chip Inductor; Code_JEITA: 0402
footprint BOURNS_SRR4011 (Bourns SRR4011 Inductor)
footprint IND_PFL2015 (Coilcraft PFL2015)
footprint 2012[0805]_IND
pins: 1, 2

## Jumper
designator W?
Jumper Wire; Published: 24-Mar-1999; LatestRevisionDate: 17-Jul-2002; LatestRevisionNote: Re-released for DXP Platform.; PackageReference: RAD-0.2; Publisher: Altium Limited
footprint JUMPER
pins: 1 C1, 2 C2

## L829-1J1T-43
designator J?
Ethernet Jack, 10/100/1000, integrated magnetics, leds; XMOS Part Number: E-04-0118; Manufacturer: Bel Fuse; Part Creator: EB; Approx Volume Cost ($): 3.3205; Approved: NO; Value: L829-1J1T-43; Manufacturer Part Number: L829-1J1T-43; Datasheet: http://belfuse.com/pdfs/L829-1J1T-43.pdf; Max Height (mm): 11.2; F13: http://www.digikey.com/product-detail/en/L829-1J1T-43/380-1110-ND/1033376
footprint L829-1J1T-43
part A pins: 1 TRCT3, 2 TRD3-, 3 TRD3+, 4 TRD2+, 5 TRD2-, 6 TRCT2, 7 TRCT4, 8 TRD4+, 9 TRD4-, 10 TRD1-, 11 TRD1+, 12 TRCT1
part B pins: 13 K, 14 A
part C pins: 15 K, 16 A, 17 K
part B text: YEL
part C text: GRN; ORA

## LED3
designator D?
SMD LED; Published: 8-Jun-2000; LatestRevisionDate: 17-Dec-2003; LatestRevisionNote: PCB Footprint replaced.; DatasheetVersion: 16-Apr-2002; PackageVersion: 16-Apr-2002; PackageReference: 3.5X2.8X1.9; Publisher: Altium Limited
footprint LED SMD 0805 (AVAGO TECHNOLOGIES HSME-C150)
footprint 1608[0603]_LED (LED; Body 1.6 x 0.8 mm (LxW typ) Handsoldering optimized)
pins: 1 A, 2 K

## LP3872
designator U?, comment LP3872-3.3 SOT223-5
pins: 1 ~{SD}, 2 VIN, 3 VOUT, 4 ~{ERR}, 5 GND

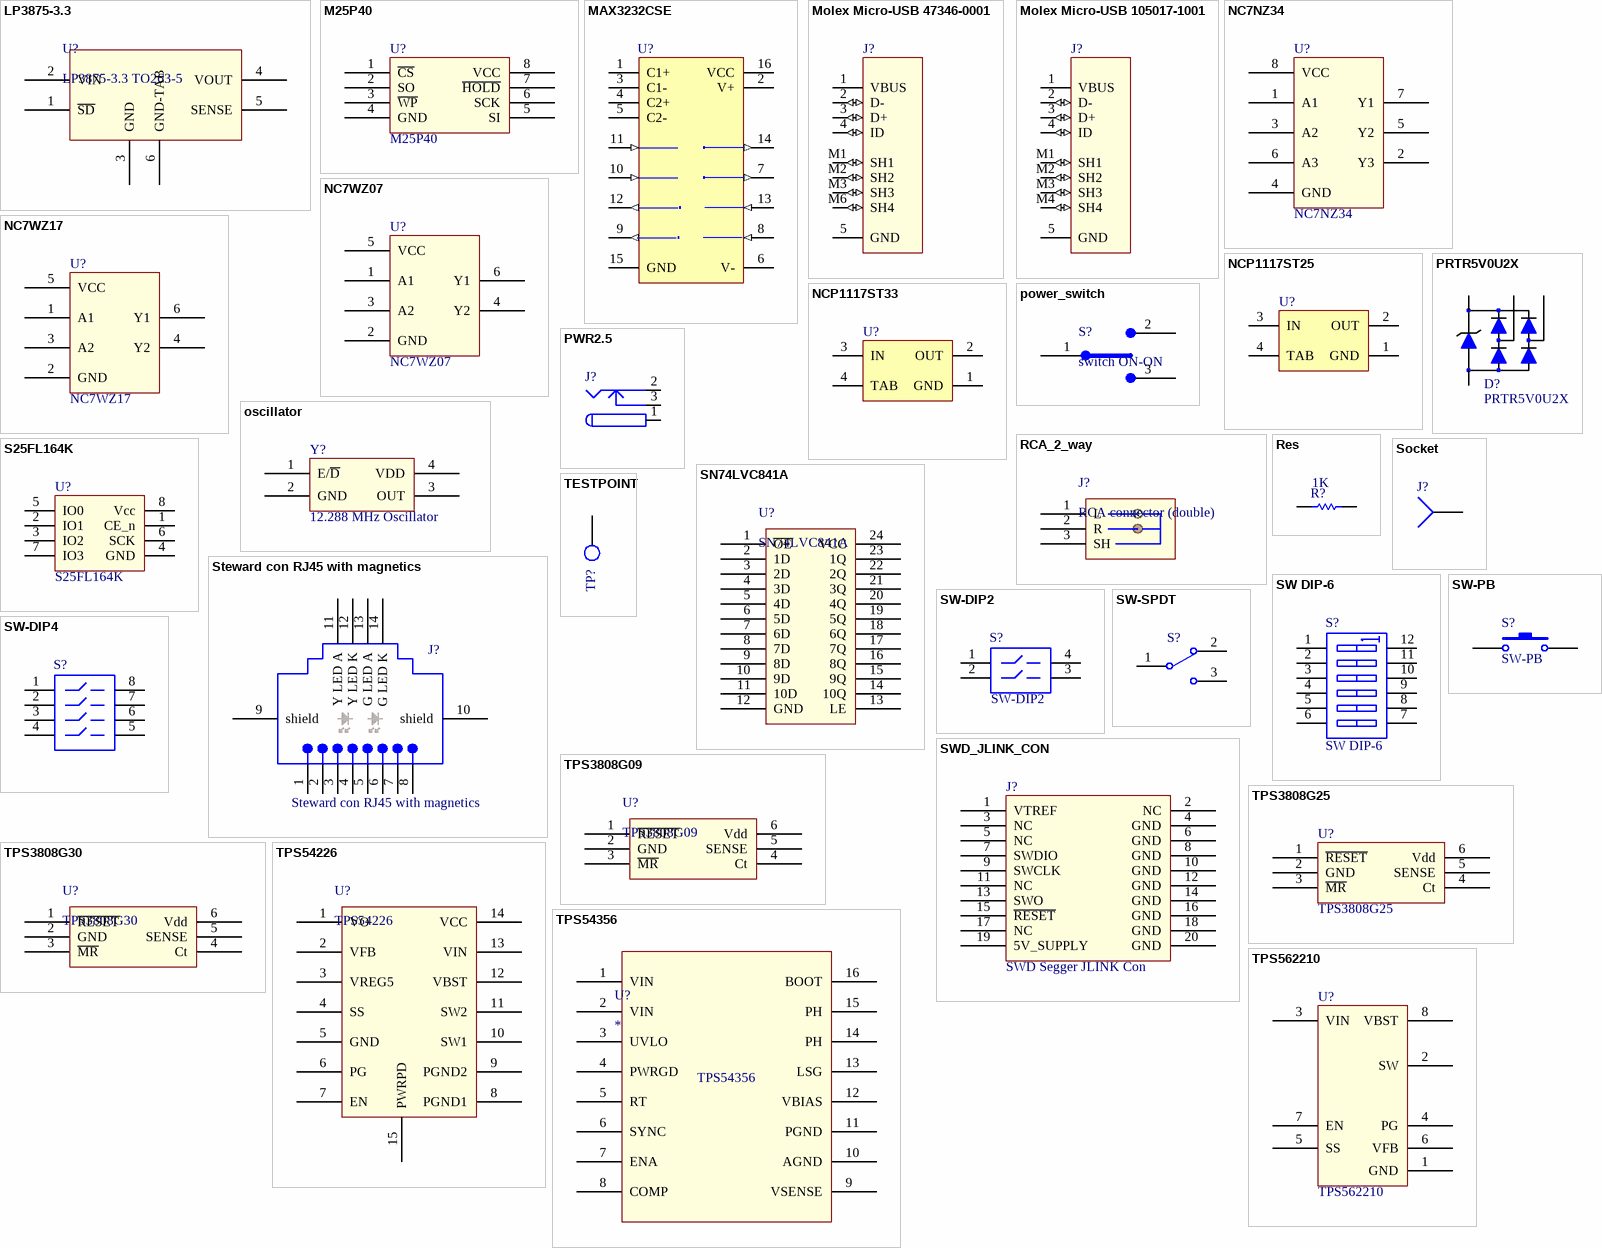
[diagram p3: symbols LP3875-3.3 to TPS562210]

## LP3875-3.3
designator U?, comment LP3875-3.3 TO263-5
3.3V LDO
footprint TO263-5 (TO263-5 Handsoldering optimized)
pins: 1 ~{SD}, 2 VIN, 3 GND, 4 VOUT, 5 SENSE, 6 GND-TAB

## M25P40
designator U?
4Mbit SPI Flash
footprint SOIC150-8_M (8-Pin Plastic Narrow Body Small Outline Integrated Circuit 1.27 mm Pitch, IPC Low Density)
pins: 1 ~{CS}, 2 SO, 3 ~{WP}, 4 GND, 5 SI, 6 SCK, 7 ~{HOLD}, 8 VCC

## MAX3232CSE
designator U?
3.0V TO 5.5V, Low-Power, up to 1Mbps, True RS-232 Transceiver Using Four 0.1µF External Capacitor; Published: 16-Jan-2001; LatestRevisionDate: 13-Apr-2006; LatestRevisionNote: IPC-7351 Footprint Added.; DatasheetVersion: Mar-1999; PackageReference: NSO16; Publisher: Altium Limited; PackageDescription: 16-Pin Small Outline Integrated Circuit 1.27 mm Pitch; Code_JEDEC: MS-012-AC; Code_IPC: SOIC127P600-16; ComponentLink1Description: Manufacturer Link; ComponentLink1URL: http://www.maxim-ic.com/; ComponentLink2Description: Datasheet; ComponentLink2URL: http://pdfserv.maxim-ic.com/en/ds/MAX3222-MAX3241.pdf
footprint NSO16_M (SOIC, 16-Leads, Body 9.9x3.9mm, Pitch 1.27mm, IPC Low Density)
pins: 1 C1+, 2 V+ (power), 3 C1-, 4 C2+, 5 C2-, 6 V- (power), 7 T2OUT (out), 8 R2IN (in), 9 R2OUT (out), 10 T2IN (in), 11 T1IN (in), 12 R1OUT (out), 13 R1IN (in), 14 T1OUT (out), 15 GND (power), 16 VCC (power)

## Molex Micro-USB 47346-0001
designator J?  (value not drawn)
Micro-USB B Receptacle with Flange, Bottom Mount, SMT, Lead-Free; MP: 47346-0001; MF: Molex; Price: 0.56 USD; Availability: Good; Package: None; Value: *
footprint MOLEX_47346-0001_47346-0001(Primary)
pins: 1 VBUS (power), 2 D- (io), 3 D+ (io), 4 ID (io), 5 GND (power), M1 SH1 (io), M2 SH2 (io), M3 SH3 (io), M6 SH4 (io)

## Molex Micro-USB 105017-1001
designator J?, comment Micro-USB B Receptacle  (value not drawn)
Micro-USB B Receptacle with Flange, Bottom Mount, SMT, Lead-Free; MP: 47346-0001; MF: Molex; Price: 0.56 USD; Availability: Good; Package: None; Value: *
footprint MOLEX_105017-0001
pins: 1 VBUS (power), 2 D- (io), 3 D+ (io), 4 ID (io), 5 GND (power), M1 SH1 (io), M2 SH2 (io), M3 SH3 (io), M4 SH4 (io)

## NC7NZ34
designator U?
Tripple Buffer
footprint US8
pins: 1 A1, 2 Y3, 3 A2, 4 GND, 5 Y2, 6 A3, 7 Y1, 8 VCC

## NC7WZ07
designator U?
Dual Buffer (open drain output); Manufacturer: FAIRCHILD SEMICONDUCTOR; Vendor: Farnell; ProductCode: 'NC7WZ07P6X; VendorCode: 1470998; PricePerPiece: 0.28
footprint SOT363-6M_SC70
pins: 1 A1, 2 GND, 3 A2, 4 Y2, 5 VCC, 6 Y1

## NC7WZ17
designator U?
Dual Buffer; Manufacturer: FAIRCHILD SEMICONDUCTOR; Vendor: Farnell; ProductCode: NC7WZ17P6X; VendorCode: 1651986; PricePerPiece: 0.27
footprint SOT363-6M_SC70
pins: 1 A1, 2 GND, 3 A2, 4 Y2, 5 VCC, 6 Y1

## NCP1117ST25
designator U?
800mA Low-Dropout Linear Regulator, 4-pin SOT-223; PartNumber: LM1117MPX-2.5; Manufacturer: National Semiconductor; PackageTopMarking: XYTT*N13A; PowerWise: N; CompType: LDO IC; Published: 1-Mar-2010; DatasheetVersion: Apr-2006; PackageVersion: revB, Apr-2003; PackageReference: MP04A; Publisher: Altium Limited; PackageDescription: Molded SOT-223, 6.50 x 3.56 x 1.6mm Body, 4 Lead, 2.3mm Pitch; RoHS: N; PinCount: 4; Code_JEDEC: TO-261-AA; Code_IPC: SOT223-4; ComponentLink1Description: LM1117 Datasheet; ComponentLink1URL: http://www.national.com/ds/LM/LM1117.pdf; ComponentLink2Description: LM1117 Web Page; ComponentLink2URL: http://www.national.com/pf/LM/LM1117.html; ComponentLink3Description: MP04A Package Page; ComponentLink3URL: http://www.national.com/packaging/folders/mp04a.html
footprint SOT223-3_L (SOT223, 4-Leads, Body 6.5x3.5mm, Pitch 2.3mm, Lead Span 7mm, IPC High Density)
footprint SOT223-3_M (SOT223, 4-Leads, Body 6.5x3.5mm, Pitch 2.3mm, Lead Span 7mm, IPC Low Density)
footprint SOT223-3_N (SOT223, 4-Leads, Body 6.5x3.5mm, Pitch 2.3mm, Lead Span 7mm, IPC Medium Density)
pins: 1 GND (power), 2 OUT (power), 3 IN (power), 4 TAB (power)

## NCP1117ST33
designator U?
800mA Low-Dropout Linear Regulator, 4-pin SOT-223; PartNumber: LM1117MPX-2.5; Manufacturer: National Semiconductor; PackageTopMarking: XYTT*N13A; PowerWise: N; CompType: LDO IC; Published: 1-Mar-2010; DatasheetVersion: Apr-2006; PackageVersion: revB, Apr-2003; PackageReference: MP04A; Publisher: Altium Limited; PackageDescription: Molded SOT-223, 6.50 x 3.56 x 1.6mm Body, 4 Lead, 2.3mm Pitch; RoHS: N; PinCount: 4; Code_JEDEC: TO-261-AA; Code_IPC: SOT223-4; ComponentLink1Description: LM1117 Datasheet; ComponentLink1URL: http://www.national.com/ds/LM/LM1117.pdf; ComponentLink2Description: LM1117 Web Page; ComponentLink2URL: http://www.national.com/pf/LM/LM1117.html; ComponentLink3Description: MP04A Package Page; ComponentLink3URL: http://www.national.com/packaging/folders/mp04a.html
footprint SOT223-3_L (SOT223, 4-Leads, Body 6.5x3.5mm, Pitch 2.3mm, Lead Span 7mm, IPC High Density)
footprint SOT223-3_M (SOT223, 4-Leads, Body 6.5x3.5mm, Pitch 2.3mm, Lead Span 7mm, IPC Low Density)
footprint SOT223-3_N (SOT223, 4-Leads, Body 6.5x3.5mm, Pitch 2.3mm, Lead Span 7mm, IPC Medium Density)
pins: 1 GND (power), 2 OUT (power), 3 IN (power), 4 TAB (power)

## oscillator
designator Y?, comment 12.288 MHz Oscillator
Crystal Oscillator
footprint FXO-HC736R (Quartz Crystal, SM; Body 7.5 x 5.1 mm (LxW max))
footprint OSC_32_50 (Oscillator, 3,2mm x 5mm)
footprint OSC_32_25 (Oscillator, 3,2mm x 2,5mm)
pins: 1 E/~{D}, 2 GND, 3 OUT, 4 VDD

## power_switch
designator S?, comment switch ON-ON
footprint MFP106D
pins: 1 7, 2, 3

## PRTR5V0U2X
designator D?
DIODE, TVS, DUAL, SOT-143B; Diode Type: TVS, Bidirectional; Voltage, Stand-off: 5.5V; Voltage, Vbr: 9V; Termination T...; MF: NXP Semiconductors; Price: 0.40 USD; Availability: Good; Package: SOT-143 NXP Semiconductors; MP: PRTR5V0U2X; Value: *
footprint SOT143B
pins: 1 P$1, 2 P$2, 3 P$3, 4 P$4

## PWR2.5
designator J?
Low Voltage Power Supply Connector; Published: 17-Dec-2003; DatasheetDocument: 09-May-2002; Publisher: Altium Limited; ComponentLink1Description: Manufacturer Link; ComponentLink1URL: http://domino.kycon.com/internet/Products.html
footprint KLD-0202 (DC Power Jack, 2.5mm, KLD Series, PCB Mount)
pins: 1 (power), 1A (power), 1B (power), 2 (power), 2A (power), 2B (power), 3 (power), 3A (power), 3B (power)

## RCA_2_way
designator J?, comment RCA connector (double)
RCA connector
footprint RCA2 (PRO SIGNAL 2-way RCA stacked)
pins: 1 L, 2 R, 3 SH

## Res
designator R?  value 1K  (hidden comment: Res)
Resistor; Published: 8-Jun-2000; LatestRevisionDate: 17-Jul-2002; LatestRevisionNote: Re-released for DXP Platform.; PackageReference: AXIAL-0.3; Publisher: Altium Limited
footprint 1608[0603] (Chip Resistor / Capacitor; Body 1.6 x 0.8 mm (LxW typ) Handsoldering optimized)
footprint 2012[0805] (Chip Resistor / Capacitor; Body 2.0 x 1.3 mm (LxW typ) Handsoldering optimized)
footprint 1608[0603]_RES (Chip Resistor / Capacitor; Body 1.6 x 0.8 mm (LxW typ) Handsoldering optimized)
footprint 2012[0805]_RES (Chip Resistor / Capacitor; Body 2.0 x 1.3 mm (LxW typ) Handsoldering optimized)
footprint 1608[0603]_RES2 (Chip Resistor, Body 1.6x0.8mm, IPC Medium Density)
footprint 1005[0402]_RES2 (Chip Capacitor, Body 1.0x0.5mm, IPC Medium Density)
pins: 1, 2

## S25FL164K
designator U?
QSPI Flash
footprint SOIC127P1030-8M (SOIC, 8-Leads, Body 5.3x7.5mm, Pitch 1.27mm, IPC Low Density)
pins: 1 CE_n, 2 IO1, 3 IO2, 4 GND, 5 IO0, 6 SCK, 7 IO3, 8 Vcc

## SN74LVC841A
designator U?
Latch
footprint SOIC127P1030-24M (SOIC, 24-Leads, Body 15.4x7.5mm, Pitch 1.27mm, IPC Low Density)
pins: 1 ~{OE}, 2 1D, 3 2D, 4 3D, 5 4D, 6 5D, 7 6D, 8 7D, 9 8D, 10 9D, 11 10D, 12 GND, 13 LE, 14 10Q, 15 9Q, 16 8Q, 17 7Q, 18 6Q, 19 5Q, 20 4Q, 21 3Q, 22 2Q, 23 1Q, 24 VCC

## Socket
designator J?
Socket; LatestRevisionDate: 17-Jul-2002; LatestRevisionNote: Re-released for DXP Platform.; Publisher: Altium Limited
footprint PIN1 (Connector; Plug)
pins: 1

## Steward con RJ45 with magnetics
designator J?
Right Angle,RJ45-Keyed, Flange Mount PCB Jack; Ports: 1; Positions/Loaded: Port1 - 8 Keyed/8; PerformanceCategory: 3; PCB_Mounting: Thru-Hole; ComponentAvailability: Obsolete; DrillSize: Nominal, Rounded to nearest 0.05mm; PCB_Layout: Complies with Manufacturer's Recommendation.; Published: 25-Jun-2002; DatasheetDocument: 18-Dec-2001; PackageDocument: 18-Dec-2001; PackageReference: 15-43-6233; Publisher: Altium Limited; ComponentLink1Description: Manufacturer Link; ComponentLink1URL: http://www.molex.com/; ComponentLink2Description: Datasheet; ComponentLink2URL: http://www.molex.com/cmc_upload/common_files/1212003_catalogmx41314.pdf; ComponentLink3Description: Iges Model; ComponentLink3URL: http://www.molex.com/pdm_docs/igs/15-43-6233_igs.zip
footprint Steward Con RJ45 (Connector; PCB Jack, Thru-Hole; 1-Port; Unshielded without Lightpipes; Right Angle)
pins: 1, 2, 3, 4, 5, 6, 7, 8, 9 shield, 10 shield, 11 Y LED A, 12 Y LED K, 13 G LED A, 14 G LED K

## SW DIP-6
designator S?
DIP Switch, 6 Position, SPST; Published: 24-Mar-1999; LatestRevisionDate: 17-Jul-2002; LatestRevisionNote: Re-released for DXP Platform.; PackageReference: DIP-12/SW; Publisher: Altium Limited
footprint DIPSW6_SMD
pins: 1 A1, 2 A2, 3 A3, 4 A4, 5 A5, 6 A6, 7 B6, 8 B5, 9 B4, 10 B3, 11 B2, 12 B1

## SW-DIP2
designator S?
DIP Switch; Published: 24-Mar-1999; LatestRevisionDate: 17-Jul-2002; LatestRevisionNote: Re-released for DXP Platform.; PackageReference: DIP-8; Publisher: Altium Limited
footprint DIPSW2_SMD
pins: 1, 2, 3, 4

## SW-DIP4
designator S?
DIP Switch; Published: 24-Mar-1999; LatestRevisionDate: 17-Jul-2002; LatestRevisionNote: Re-released for DXP Platform.; PackageReference: DIP-8; Publisher: Altium Limited
footprint DIPSW4_SMD
pins: 1, 2, 3, 4, 5, 6, 7, 8

## SW-PB
designator S?
Switch; Published: 24-Mar-1999; LatestRevisionDate: 17-Jul-2002; LatestRevisionNote: Re-released for DXP Platform.; PackageReference: SPST-2; Publisher: Altium Limited
footprint SW-PB_SMD
footprint SW_4-1437565-2
footprint TACTILE_SW_6035_1 (Tactile switch SPST-NO 6mm x 3.5mm)
pins: 1, 2

## SW-SPDT
designator S?
SPDT Subminiature Toggle Switch, Right Angle Mounting, Vertical Actuation; Published: 24-Mar-1999; LatestRevisionDate: 17-Dec-2003; LatestRevisionNote: Schematic revised, PCB Footprint replaced.; DatasheetVersion: 05-Dec-2000; PackageReference: TL36WW15050; Publisher: Altium Limited; PackageDescription: Switch; 4 Leads; ComponentLink1Description: Manufacturer Link; ComponentLink1URL: http://www.apem.com
footprint SIP-3
pins: 1, 2, 3

## SWD_JLINK_CON
designator J?, comment SWD Segger JLINK Con
SWD Segger JLINK Connector
footprint IDC2.54-V20D (Connector; IDC, Low Profile Male Header, Thru-Hole; 20 Position; Vertical; Pitch 2.54 mm; Body 33.02 x 9.2 x 9.45 mm (LxWxH))
pins: 1 VTREF, 2 NC, 3 NC, 4 GND, 5 NC, 6 GND, 7 SWDIO, 8 GND, 9 SWCLK, 10 GND, 11 NC, 12 GND, 13 SWO, 14 GND, 15 ~{RESET}, 16 GND, 17 NC, 18 GND, 19 5V_SUPPLY, 20 GND

## TESTPOINT
designator TP?, comment ??  (value not drawn)
Surface Mount Testpoint, 1mm; XMOS Part Number: E-15-0014; Part Creator: JG; LEVEL: STD; VALUE: NA; FORWARD_PCB: 1; Approved: NO; DEVICE: ??; Manufacturer: NA; Manufacturer Part Number: NA; Datasheet: NA; Approx Volume Cost ($): NA; Max Height (mm): 1
footprint TESTPOINT_1MM_SM
footprint TESTPOINT_THRU
pins: 1

## TPS3808G09
designator U?
Power on Reset controller 0.9V
footprint SOT23-6 (SOT-23/SC-74A; 6 Leads; Body 3 x 3 mm, inc. leads (LxW max))
pins: 1 ~{RESET}, 2 GND, 3 ~{MR}, 4 Ct, 5 SENSE, 6 Vdd

## TPS3808G25
designator U?
Power on Reset controller 2.5V
footprint SOT23-6 (SOT-23/SC-74A; 6 Leads; Body 3 x 3 mm, inc. leads (LxW max))
pins: 1 ~{RESET}, 2 GND, 3 ~{MR}, 4 Ct, 5 SENSE, 6 Vdd

## TPS3808G30
designator U?
Power on Reset controller 3.0V
footprint SOT23-6 (SOT-23/SC-74A; 6 Leads; Body 3 x 3 mm, inc. leads (LxW max))
pins: 1 ~{RESET}, 2 GND, 3 ~{MR}, 4 Ct, 5 SENSE, 6 Vdd

## TPS54226
designator U?
Buck Converter
footprint HTSSOP-14 (HTSSOP-14 for TI TPS54226)
pins: 1 VO, 2 VFB, 3 VREG5, 4 SS, 5 GND, 6 PG, 7 EN, 8 PGND1, 9 PGND2, 10 SW1, 11 SW2, 12 VBST, 13 VIN, 14 VCC, 15 PWRPD

## TPS54356
designator U?
Buck converter
pins: 1 VIN, 2 VIN, 3 UVLO, 4 PWRGD, 5 RT, 6 SYNC, 7 ENA, 8 COMP, 9 VSENSE, 10 AGND, 11 PGND, 12 VBIAS, 13 LSG, 14 PH, 15 PH, 16 BOOT

## TPS562210
designator U?
Buck converter
footprint SOT-23-8
pins: 1 GND, 2 SW, 3 VIN, 4 PG, 5 SS, 6 VFB, 7 EN, 8 VBST

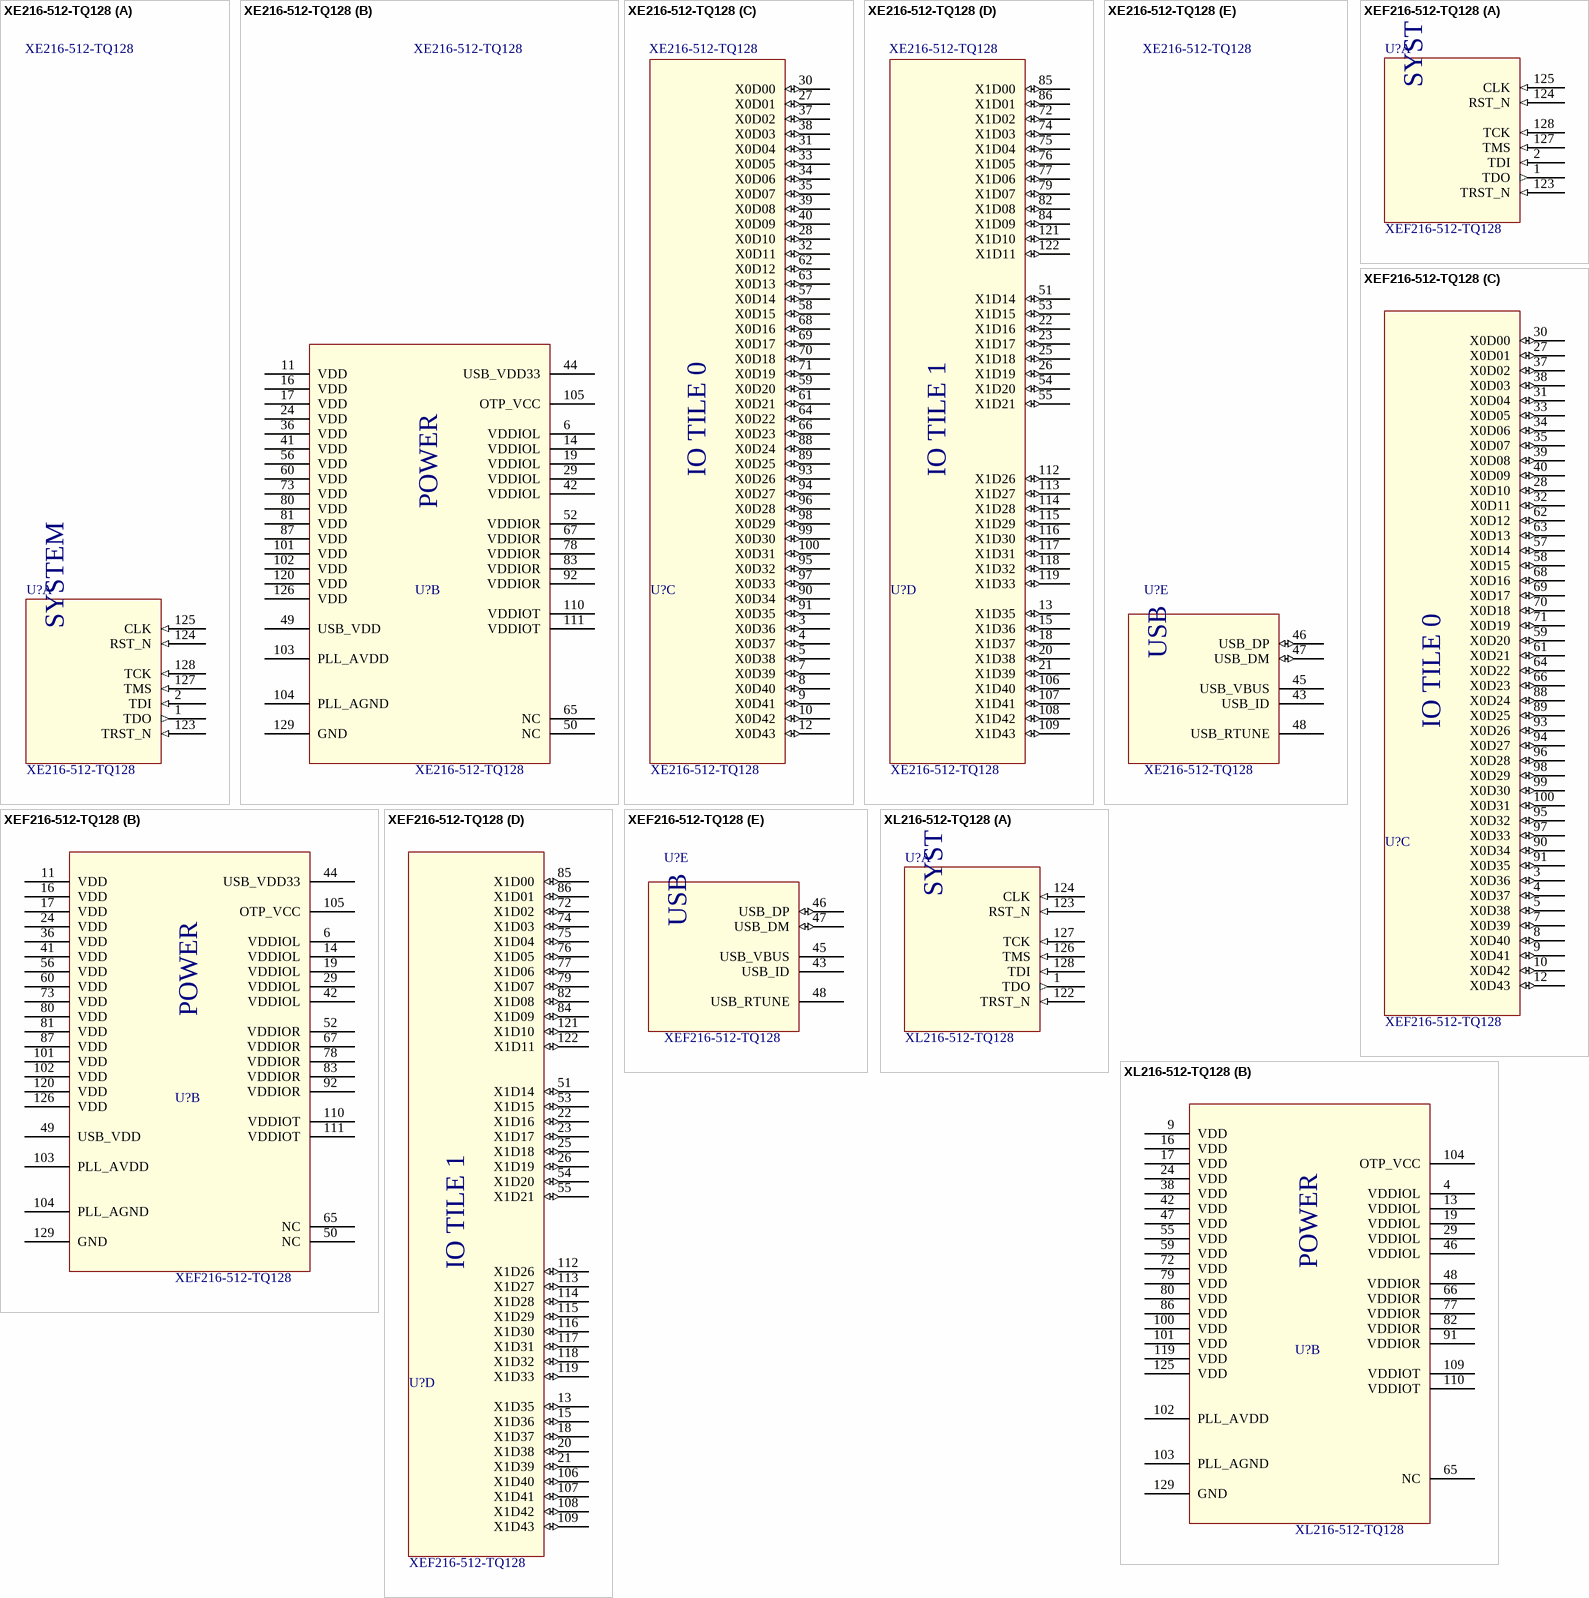
[diagram p4: symbols XE216-512-TQ128 to XL216-512-TQ128]

## XE216-512-TQ128
designator U?
XMOS xCORE200 Processor; XMOS Part Number: JG-NEW-0002; Manufacturer: XMOS; Manufacturer Part Number: XE216-512-TQ128; VALUE: XE216-512-TQ128
footprint XMOS_LQFP_128
footprint XMOS_LQFP_128_XE216_512
part A pins: 1 TDO (out), 2 TDI (in), 123 TRST_N (in), 124 RST_N (in), 125 CLK (in), 127 TMS (in), 128 TCK (in)
part B pins: 6 VDDIOL (power), 11 VDD (power), 14 VDDIOL (power), 16 VDD (power), 17 VDD (power), 19 VDDIOL (power), 24 VDD (power), 29 VDDIOL (power), 36 VDD (power), 41 VDD (power), 42 VDDIOL (power), 44 USB_VDD33 (power), 49 USB_VDD (power), 50 NC, 52 VDDIOR (power), 56 VDD (power), 60 VDD (power), 65 NC, 67 VDDIOR (power), 73 VDD (power), 78 VDDIOR (power), 80 VDD (power), 81 VDD (power), 83 VDDIOR (power), 87 VDD (power), 92 VDDIOR (power), 101 VDD (power), 102 VDD (power), 103 PLL_AVDD (power), 104 PLL_AGND (power), 105 OTP_VCC (power), 110 VDDIOT (power), 111 VDDIOT (power), 120 VDD (power), 126 VDD (power), 129 GND (power)
part C pins: 3 X0D36 (io), 4 X0D37 (io), 5 X0D38 (io), 7 X0D39 (io), 8 X0D40 (io), 9 X0D41 (io), 10 X0D42 (io), 12 X0D43 (io), 27 X0D01 (io), 28 X0D10 (io), 30 X0D00 (io), 31 X0D04 (io), 32 X0D11 (io), 33 X0D05 (io), 34 X0D06 (io), 35 X0D07 (io), 37 X0D02 (io), 38 X0D03 (io), 39 X0D08 (io), 40 X0D09 (io), 57 X0D14 (io), 58 X0D15 (io), 59 X0D20 (io), 61 X0D21 (io), 62 X0D12 (io), 63 X0D13 (io), 64 X0D22 (io), 66 X0D23 (io), 68 X0D16 (io), 69 X0D17 (io), 70 X0D18 (io), 71 X0D19 (io), 88 X0D24 (io), 89 X0D25 (io), 90 X0D34 (io), 91 X0D35 (io), 93 X0D26 (io), 94 X0D27 (io), 95 X0D32 (io), 96 X0D28 (io), 97 X0D33 (io), 98 X0D29 (io), 99 X0D30 (io), 100 X0D31 (io)
part D pins: 13 X1D35 (io), 15 X1D36 (io), 18 X1D37 (io), 20 X1D38 (io), 21 X1D39 (io), 22 X1D16 (io), 23 X1D17 (io), 25 X1D18 (io), 26 X1D19 (io), 51 X1D14 (io), 53 X1D15 (io), 54 X1D20 (io), 55 X1D21 (io), 72 X1D02 (io), 74 X1D03 (io), 75 X1D04 (io), 76 X1D05 (io), 77 X1D06 (io), 79 X1D07 (io), 82 X1D08 (io), 84 X1D09 (io), 85 X1D00 (io), 86 X1D01 (io), 106 X1D40 (io), 107 X1D41 (io), 108 X1D42 (io), 109 X1D43 (io), 112 X1D26 (io), 113 X1D27 (io), 114 X1D28 (io), 115 X1D29 (io), 116 X1D30 (io), 117 X1D31 (io), 118 X1D32 (io), 119 X1D33 (io), 121 X1D10 (io), 122 X1D11 (io)
part E pins: 43 USB_ID, 45 USB_VBUS, 46 USB_DP (io), 47 USB_DM (io), 48 USB_RTUNE
part A text: SYSTEM
part B text: POWER
part C text: IO TILE 0
part D text: IO TILE 1
part E text: USB

## XEF216-512-TQ128
designator U?
XMOS xCORE200 Processor; Manufacturer Part Number: XE216-512-TQ128; XMOS Part Number: JG-NEW-0002; Manufacturer: XMOS
footprint XMOS_LQFP_128
footprint XMOS_LQFP_128_XEF216_512
part A pins: 1 TDO (out), 2 TDI (in), 123 TRST_N (in), 124 RST_N (in), 125 CLK (in), 127 TMS (in), 128 TCK (in)
part B pins: 6 VDDIOL (power), 11 VDD (power), 14 VDDIOL (power), 16 VDD (power), 17 VDD (power), 19 VDDIOL (power), 24 VDD (power), 29 VDDIOL (power), 36 VDD (power), 41 VDD (power), 42 VDDIOL (power), 44 USB_VDD33 (power), 49 USB_VDD (power), 50 NC, 52 VDDIOR (power), 56 VDD (power), 60 VDD (power), 65 NC, 67 VDDIOR (power), 73 VDD (power), 78 VDDIOR (power), 80 VDD (power), 81 VDD (power), 83 VDDIOR (power), 87 VDD (power), 92 VDDIOR (power), 101 VDD (power), 102 VDD (power), 103 PLL_AVDD (power), 104 PLL_AGND (power), 105 OTP_VCC (power), 110 VDDIOT (power), 111 VDDIOT (power), 120 VDD (power), 126 VDD (power), 129 GND (power)
part C pins: 3 X0D36 (io), 4 X0D37 (io), 5 X0D38 (io), 7 X0D39 (io), 8 X0D40 (io), 9 X0D41 (io), 10 X0D42 (io), 12 X0D43 (io), 27 X0D01 (io), 28 X0D10 (io), 30 X0D00 (io), 31 X0D04 (io), 32 X0D11 (io), 33 X0D05 (io), 34 X0D06 (io), 35 X0D07 (io), 37 X0D02 (io), 38 X0D03 (io), 39 X0D08 (io), 40 X0D09 (io), 57 X0D14 (io), 58 X0D15 (io), 59 X0D20 (io), 61 X0D21 (io), 62 X0D12 (io), 63 X0D13 (io), 64 X0D22 (io), 66 X0D23 (io), 68 X0D16 (io), 69 X0D17 (io), 70 X0D18 (io), 71 X0D19 (io), 88 X0D24 (io), 89 X0D25 (io), 90 X0D34 (io), 91 X0D35 (io), 93 X0D26 (io), 94 X0D27 (io), 95 X0D32 (io), 96 X0D28 (io), 97 X0D33 (io), 98 X0D29 (io), 99 X0D30 (io), 100 X0D31 (io)
part D pins: 13 X1D35 (io), 15 X1D36 (io), 18 X1D37 (io), 20 X1D38 (io), 21 X1D39 (io), 22 X1D16 (io), 23 X1D17 (io), 25 X1D18 (io), 26 X1D19 (io), 51 X1D14 (io), 53 X1D15 (io), 54 X1D20 (io), 55 X1D21 (io), 72 X1D02 (io), 74 X1D03 (io), 75 X1D04 (io), 76 X1D05 (io), 77 X1D06 (io), 79 X1D07 (io), 82 X1D08 (io), 84 X1D09 (io), 85 X1D00 (io), 86 X1D01 (io), 106 X1D40 (io), 107 X1D41 (io), 108 X1D42 (io), 109 X1D43 (io), 112 X1D26 (io), 113 X1D27 (io), 114 X1D28 (io), 115 X1D29 (io), 116 X1D30 (io), 117 X1D31 (io), 118 X1D32 (io), 119 X1D33 (io), 121 X1D10 (io), 122 X1D11 (io)
part E pins: 43 USB_ID, 45 USB_VBUS, 46 USB_DP (io), 47 USB_DM (io), 48 USB_RTUNE
part A text: SYSTEM
part B text: POWER
part C text: IO TILE 0
part D text: IO TILE 1
part E text: USB

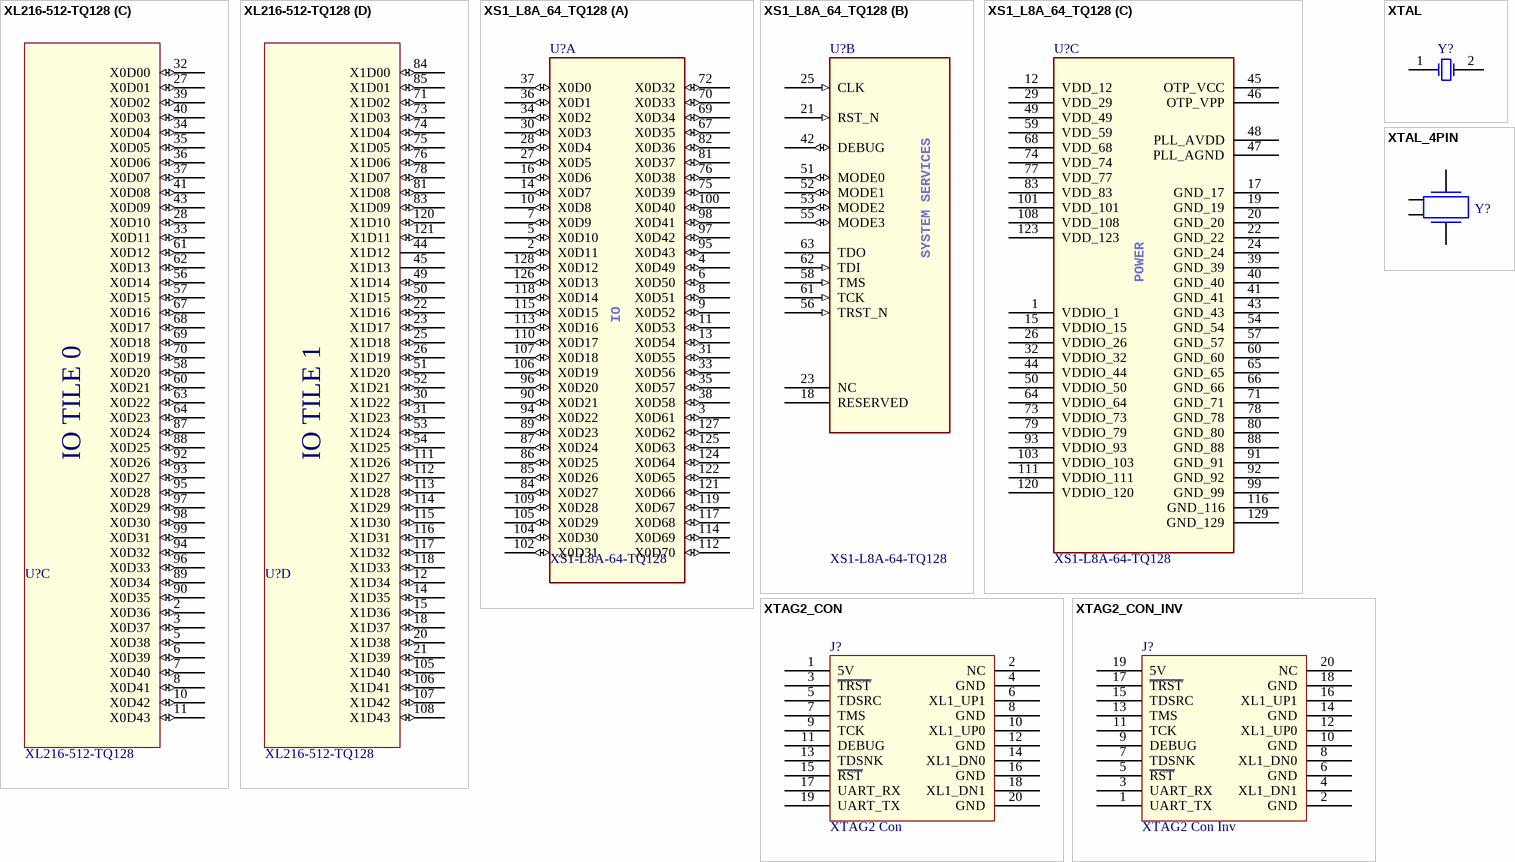
[diagram p5: symbols XL216-512-TQ128 to XTAL_4PIN]

## XL216-512-TQ128
designator U?
XMOS xCORE200 Processor; Manufacturer Part Number: XE216-512-TQ128; XMOS Part Number: JG-NEW-0002; Manufacturer: XMOS
footprint XMOS_LQFP_128
footprint XMOS_LQFP_128_XL216_512
part A pins: 1 TDO (out), 122 TRST_N (in), 123 RST_N (in), 124 CLK (in), 126 TMS (in), 127 TCK (in), 128 TDI (in)
part B pins: 4 VDDIOL (power), 9 VDD (power), 13 VDDIOL (power), 16 VDD (power), 17 VDD (power), 19 VDDIOL (power), 24 VDD (power), 29 VDDIOL (power), 38 VDD (power), 42 VDD (power), 46 VDDIOL (power), 47 VDD (power), 48 VDDIOR (power), 55 VDD (power), 59 VDD (power), 65 NC, 66 VDDIOR (power), 72 VDD (power), 77 VDDIOR (power), 79 VDD (power), 80 VDD (power), 82 VDDIOR (power), 86 VDD (power), 91 VDDIOR (power), 100 VDD (power), 101 VDD (power), 102 PLL_AVDD (power), 103 PLL_AGND (power), 104 OTP_VCC (power), 109 VDDIOT (power), 110 VDDIOT (power), 119 VDD (power), 125 VDD (power), 129 GND (power)
part C pins: 2 X0D36 (io), 3 X0D37 (io), 5 X0D38 (io), 6 X0D39 (io), 7 X0D40 (io), 8 X0D41 (io), 10 X0D42 (io), 11 X0D43 (io), 27 X0D01 (io), 28 X0D10 (io), 32 X0D00 (io), 33 X0D11 (io), 34 X0D04 (io), 35 X0D05 (io), 36 X0D06 (io), 37 X0D07 (io), 39 X0D02 (io), 40 X0D03 (io), 41 X0D08 (io), 43 X0D09 (io), 56 X0D14 (io), 57 X0D15 (io), 58 X0D20 (io), 60 X0D21 (io), 61 X0D12 (io), 62 X0D13 (io), 63 X0D22 (io), 64 X0D23 (io), 67 X0D16 (io), 68 X0D17 (io), 69 X0D18 (io), 70 X0D19 (io), 87 X0D24 (io), 88 X0D25 (io), 89 X0D34 (io), 90 X0D35 (io), 92 X0D26 (io), 93 X0D27 (io), 94 X0D32 (io), 95 X0D28 (io), 96 X0D33 (io), 97 X0D29 (io), 98 X0D30 (io), 99 X0D31 (io)
part D pins: 12 X1D34 (io), 14 X1D35 (io), 15 X1D36 (io), 18 X1D37 (io), 20 X1D38 (io), 21 X1D39 (io), 22 X1D16 (io), 23 X1D17 (io), 25 X1D18 (io), 26 X1D19 (io), 30 X1D22 (io), 31 X1D23 (io), 44 X1D12 (power), 45 X1D13 (power), 49 X1D14 (io), 50 X1D15 (io), 51 X1D20 (io), 52 X1D21 (io), 53 X1D24 (io), 54 X1D25 (io), 71 X1D02 (io), 73 X1D03 (io), 74 X1D04 (io), 75 X1D05 (io), 76 X1D06 (io), 78 X1D07 (io), 81 X1D08 (io), 83 X1D09 (io), 84 X1D00 (io), 85 X1D01 (io), 105 X1D40 (io), 106 X1D41 (io), 107 X1D42 (io), 108 X1D43 (io), 111 X1D26 (io), 112 X1D27 (io), 113 X1D28 (io), 114 X1D29 (io), 115 X1D30 (io), 116 X1D31 (io), 117 X1D32 (io), 118 X1D33 (io), 120 X1D10 (io), 121 X1D11 (io)
part A text: SYSTEM
part B text: POWER
part C text: IO TILE 0
part D text: IO TILE 1

## XS1_L8A_64_TQ128
designator U?, comment XS1-L8A-64-TQ128
footprint XMOS_LQFP_128
part A pins: 2 X0D11 (io), 3 X0D61 (io), 4 X0D49 (io), 5 X0D10 (io), 6 X0D50 (io), 7 X0D9 (io), 8 X0D51 (io), 9 X0D52 (io), 10 X0D8 (io), 11 X0D53 (io), 13 X0D54 (io), 14 X0D7 (io), 16 X0D6 (io), 27 X0D5 (io), 28 X0D4 (io), 30 X0D3 (io), 31 X0D55 (io), 33 X0D56 (io), 34 X0D2 (io), 35 X0D57 (io), 36 X0D1 (io), 37 X0D0 (io), 38 X0D58 (io), 67 X0D35 (io), 69 X0D34 (io), 70 X0D33 (io), 72 X0D32 (io), 75 X0D39 (io), 76 X0D38 (io), 81 X0D37 (io), 82 X0D36 (io), 84 X0D27 (io), 85 X0D26 (io), 86 X0D25 (io), 87 X0D24 (io), 89 X0D23 (io), 90 X0D21 (io), 94 X0D22 (io), 95 X0D43 (io), 96 X0D20 (io), 97 X0D42 (io), 98 X0D41 (io), 100 X0D40 (io), 102 X0D31 (io), 104 X0D30 (io), 105 X0D29 (io), 106 X0D19 (io), 107 X0D18 (io), 109 X0D28 (io), 110 X0D17 (io), 112 X0D70 (io), 113 X0D16 (io), 114 X0D69 (io), 115 X0D15 (io), 117 X0D68 (io), 118 X0D14 (io), 119 X0D67 (io), 121 X0D66 (io), 122 X0D65 (io), 124 X0D64 (io), 125 X0D63 (io), 126 X0D13 (io), 127 X0D62 (io), 128 X0D12 (io)
part B pins: 18 RESERVED, 21 RST_N (in), 23 NC, 25 CLK (in), 42 DEBUG (io), 51 MODE0 (io), 52 MODE1 (io), 53 MODE2 (io), 55 MODE3 (io), 56 TRST_N (in), 58 TMS (in), 61 TCK (in), 62 TDI (in), 63 TDO (hiz)
part C pins: 1 VDDIO_1, 12 VDD_12, 15 VDDIO_15, 17 GND_17, 19 GND_19, 20 GND_20, 22 GND_22, 24 GND_24, 26 VDDIO_26, 29 VDD_29, 32 VDDIO_32, 39 GND_39, 40 GND_40, 41 GND_41, 43 GND_43, 44 VDDIO_44, 45 OTP_VCC, 46 OTP_VPP, 47 PLL_AGND, 48 PLL_AVDD, 49 VDD_49, 50 VDDIO_50, 54 GND_54, 57 GND_57, 59 VDD_59, 60 GND_60, 64 VDDIO_64, 65 GND_65, 66 GND_66, 68 VDD_68, 71 GND_71, 73 VDDIO_73, 74 VDD_74, 77 VDD_77, 78 GND_78, 79 VDDIO_79, 80 GND_80, 83 VDD_83, 88 GND_88, 91 GND_91, 92 GND_92, 93 VDDIO_93, 99 GND_99, 101 VDD_101, 103 VDDIO_103, 108 VDD_108, 111 VDDIO_111, 116 GND_116, 120 VDDIO_120, 123 VDD_123, 129 GND_129
part A text: IO
part B text: SYSTEM SERVICES
part C text: POWER